# Altium integrated library Kondensator_DIP.IntLib: 1521 symbols (part 1 of 5)
Pins are listed as number, name and electrical type; pins without a type are passive.

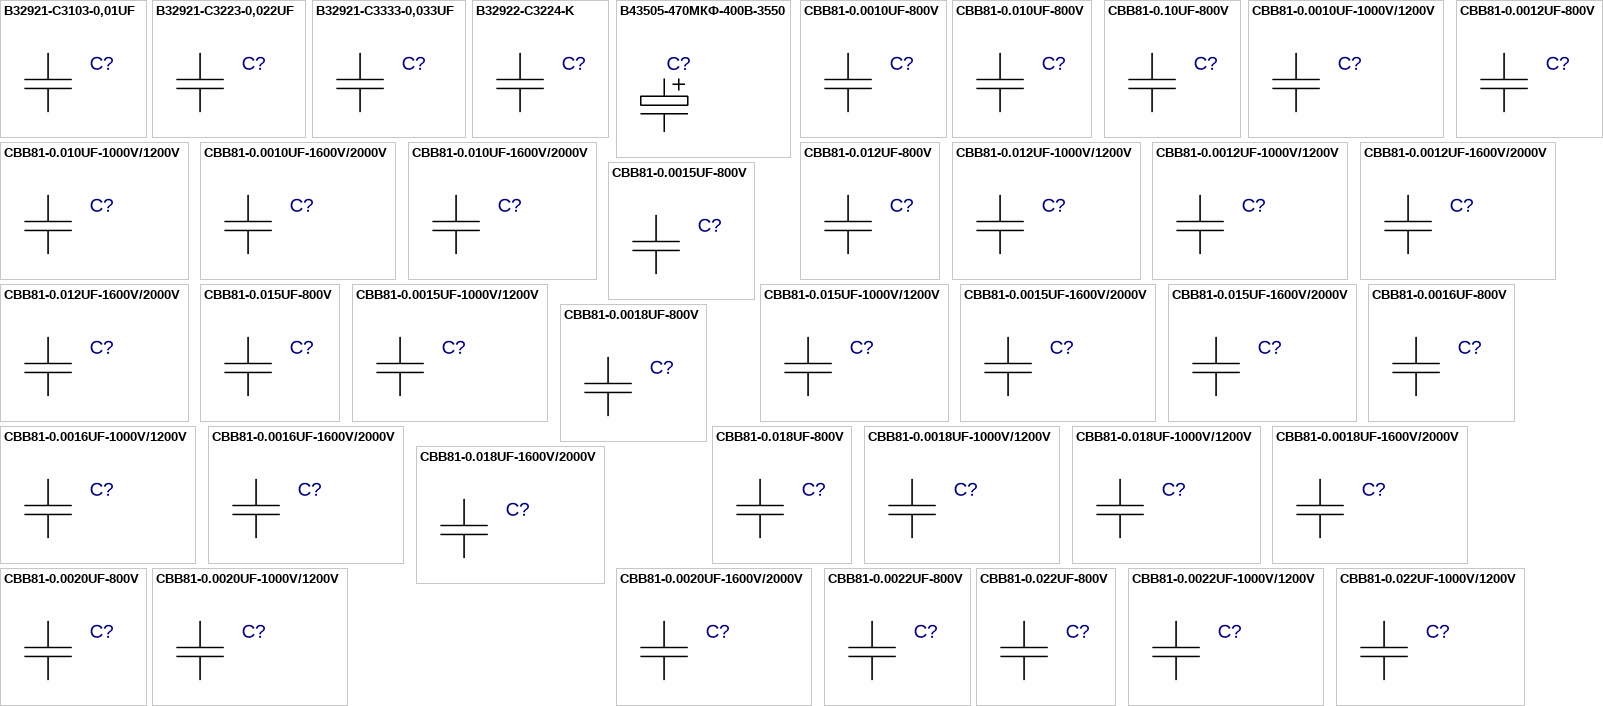
[diagram p0: symbols B32921-C3103-0,01UF to CBB81-0.022UF-1000V/1200V]

## B32921-C3103-0,01UF
designator C?  (value not drawn)
Value: *
footprint B32921(13X4)
pins: 1, 2

## B32921-C3223-0,022UF
designator C?  (value not drawn)
Value: *
footprint B32921(13X4)
pins: 1, 2

## B32921-C3333-0,033UF
designator C?  (value not drawn)
Value: *
footprint B32921(13X4)
pins: 1, 2

## B32922-C3224-K
designator C?  (value not drawn)
Value: *
footprint B32652A6104J
pins: 1, 2

## B43505-470МКФ-400В-3550
designator C?  (value not drawn)
Value: *
footprint B43505-3550
pins: 1, 2, 3 hidden

## CBB81-0.0010UF-800V
designator C?  (value not drawn)
Value: *
footprint CBB81-18P5_7
pins: 1, 2

## CBB81-0.010UF-800V
designator C?  (value not drawn)
Value: *
footprint CBB81-18P5_12
pins: 1, 2

## CBB81-0.10UF-800V
designator C?  (value not drawn)
Value: *
footprint CBB81-26_13
pins: 1, 2

## CBB81-0.0010UF-1000V/1200V
designator C?  (value not drawn)
Value: *
footprint CBB81-18P5_7
pins: 1, 2

## CBB81-0.010UF-1000V/1200V
designator C?  (value not drawn)
Value: *
footprint CBB81-23_9
pins: 1, 2

## CBB81-0.0010UF-1600V/2000V
designator C?  (value not drawn)
Value: *
footprint CBB81-18P5_7
pins: 1, 2

## CBB81-0.010UF-1600V/2000V
designator C?  (value not drawn)
Value: *
footprint CBB81-29_8P5
pins: 1, 2

## CBB81-0.0012UF-800V
designator C?  (value not drawn)
Value: *
footprint CBB81-18P5_7
pins: 1, 2

## CBB81-0.012UF-800V
designator C?  (value not drawn)
Value: *
footprint CBB81-18P5_8
pins: 1, 2

## CBB81-0.012UF-1000V/1200V
designator C?  (value not drawn)
Value: *
footprint CBB81-23_10
pins: 1, 2

## CBB81-0.0012UF-1000V/1200V
designator C?  (value not drawn)
Value: *
footprint CBB81-18P5_7
pins: 1, 2

## CBB81-0.0012UF-1600V/2000V
designator C?  (value not drawn)
Value: *
footprint CBB81-18P5_7
pins: 1, 2

## CBB81-0.012UF-1600V/2000V
designator C?  (value not drawn)
Value: *
footprint CBB81-29_9P5
pins: 1, 2

## CBB81-0.0015UF-800V
designator C?  (value not drawn)
Value: *
footprint CBB81-18P5_7P5
pins: 1, 2

## CBB81-0.015UF-800V
designator C?  (value not drawn)
Value: *
footprint CBB81-18P5_8P5
pins: 1, 2

## CBB81-0.0015UF-1000V/1200V
designator C?  (value not drawn)
Value: *
footprint CBB81-18P5_7P5
pins: 1, 2

## CBB81-0.015UF-1000V/1200V
designator C?  (value not drawn)
Value: *
footprint CBB81-29_9
pins: 1, 2

## CBB81-0.0015UF-1600V/2000V
designator C?  (value not drawn)
Value: *
footprint CBB81-18P5_7P5
pins: 1, 2

## CBB81-0.015UF-1600V/2000V
designator C?  (value not drawn)
Value: *
footprint CBB81-29_9P5
pins: 1, 2

## CBB81-0.0016UF-800V
designator C?  (value not drawn)
Value: *
footprint CBB81-18P5_8
pins: 1, 2

## CBB81-0.0016UF-1000V/1200V
designator C?  (value not drawn)
Value: *
footprint CBB81-18P5_8
pins: 1, 2

## CBB81-0.0016UF-1600V/2000V
designator C?  (value not drawn)
Value: *
footprint CBB81-18P5_8
pins: 1, 2

## CBB81-0.0018UF-800V
designator C?  (value not drawn)
Value: *
footprint CBB81-18P5_8
pins: 1, 2

## CBB81-0.018UF-800V
designator C?  (value not drawn)
Value: *
footprint CBB81-18P5_9P5
pins: 1, 2

## CBB81-0.0018UF-1000V/1200V
designator C?  (value not drawn)
Value: *
footprint CBB81-18P5_8
pins: 1, 2

## CBB81-0.018UF-1000V/1200V
designator C?  (value not drawn)
Value: *
footprint CBB81-29_9P5
pins: 1, 2

## CBB81-0.0018UF-1600V/2000V
designator C?  (value not drawn)
Value: *
footprint CBB81-18P5_8
pins: 1, 2

## CBB81-0.018UF-1600V/2000V
designator C?  (value not drawn)
Value: *
footprint CBB81-29_10P5
pins: 1, 2

## CBB81-0.0020UF-800V
designator C?  (value not drawn)
Value: *
footprint CBB81-18P5_8P5
pins: 1, 2

## CBB81-0.0020UF-1000V/1200V
designator C?  (value not drawn)
Value: *
footprint CBB81-18P5_8P5
pins: 1, 2

## CBB81-0.0020UF-1600V/2000V
designator C?  (value not drawn)
Value: *
footprint CBB81-18P5_8P5
pins: 1, 2

## CBB81-0.0022UF-800V
designator C?  (value not drawn)
Value: *
footprint CBB81-18P5_9
pins: 1, 2

## CBB81-0.022UF-800V
designator C?  (value not drawn)
Value: *
footprint CBB81-18P5_10
pins: 1, 2

## CBB81-0.0022UF-1000V/1200V
designator C?  (value not drawn)
Value: *
footprint CBB81-18P5_9
pins: 1, 2

## CBB81-0.022UF-1000V/1200V
designator C?  (value not drawn)
Value: *
footprint CBB81-29_10
pins: 1, 2

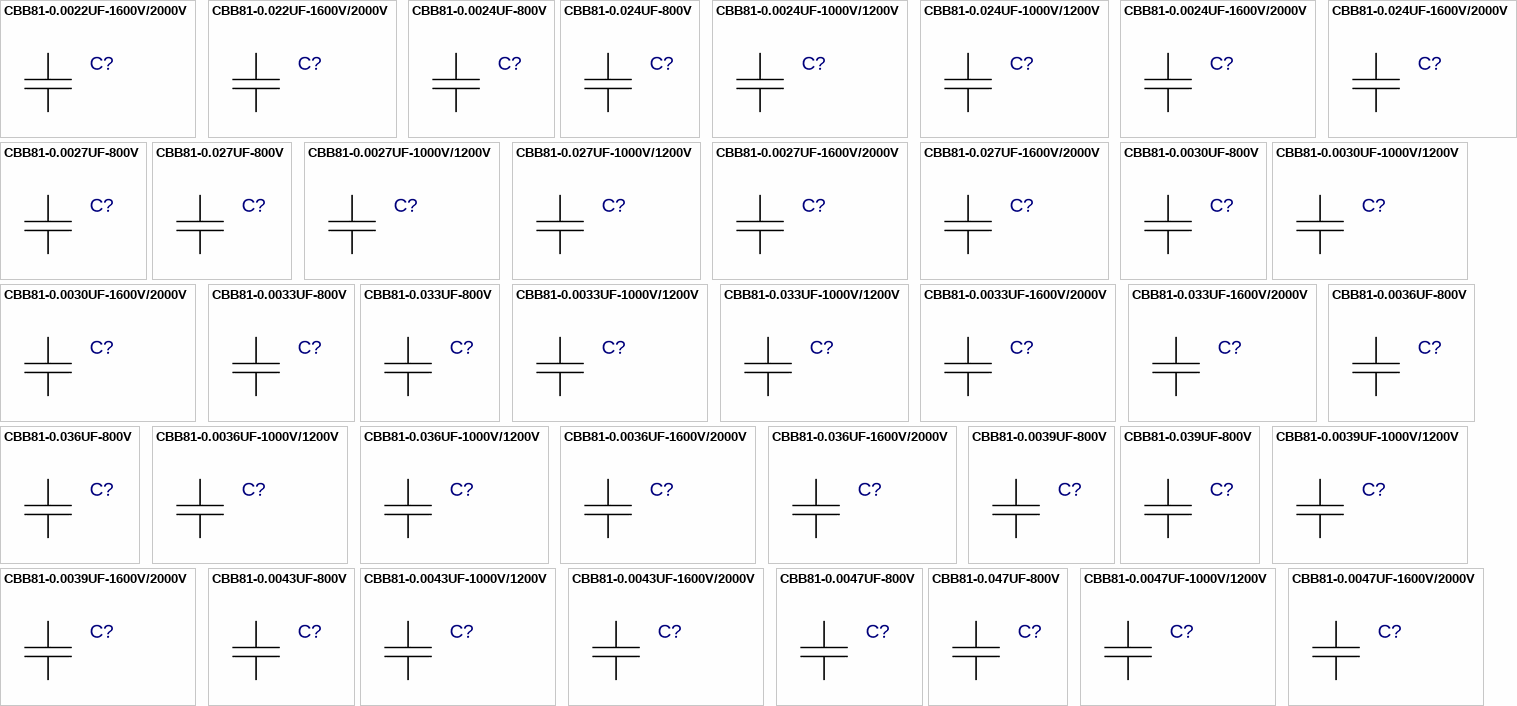
[diagram p1: symbols CBB81-0.0022UF-1600V/2000V to CBB81-0.0047UF-1600V/2000V]

## CBB81-0.0022UF-1600V/2000V
designator C?  (value not drawn)
Value: *
footprint CBB81-18P5_9
pins: 1, 2

## CBB81-0.022UF-1600V/2000V
designator C?  (value not drawn)
Value: *
footprint CBB81-29_12
pins: 1, 2

## CBB81-0.0024UF-800V
designator C?  (value not drawn)
Value: *
footprint CBB81-18P5_9
pins: 1, 2

## CBB81-0.024UF-800V
designator C?  (value not drawn)
Value: *
footprint CBB81-18P5_10P5
pins: 1, 2

## CBB81-0.0024UF-1000V/1200V
designator C?  (value not drawn)
Value: *
footprint CBB81-18P5_9
pins: 1, 2

## CBB81-0.024UF-1000V/1200V
designator C?  (value not drawn)
Value: *
footprint CBB81-29_10P5
pins: 1, 2

## CBB81-0.0024UF-1600V/2000V
designator C?  (value not drawn)
Value: *
footprint CBB81-18P5_9
pins: 1, 2

## CBB81-0.024UF-1600V/2000V
designator C?  (value not drawn)
Value: *
footprint CBB81-29_12
pins: 1, 2

## CBB81-0.0027UF-800V
designator C?  (value not drawn)
Value: *
footprint CBB81-18P5_9P5
pins: 1, 2

## CBB81-0.027UF-800V
designator C?  (value not drawn)
Value: *
footprint CBB81-18P5_11
pins: 1, 2

## CBB81-0.0027UF-1000V/1200V
designator C?  (value not drawn)
Value: *
footprint CBB81-18P5_9P5
pins: 1, 2

## CBB81-0.027UF-1000V/1200V
designator C?  (value not drawn)
Value: *
footprint CBB81-29_11
pins: 1, 2

## CBB81-0.0027UF-1600V/2000V
designator C?  (value not drawn)
Value: *
footprint CBB81-18P5_9P5
pins: 1, 2

## CBB81-0.027UF-1600V/2000V
designator C?  (value not drawn)
Value: *
footprint CBB81-31_12
pins: 1, 2

## CBB81-0.0030UF-800V
designator C?  (value not drawn)
Value: *
footprint CBB81-18P5_10
pins: 1, 2

## CBB81-0.0030UF-1000V/1200V
designator C?  (value not drawn)
Value: *
footprint CBB81-18P5_10
pins: 1, 2

## CBB81-0.0030UF-1600V/2000V
designator C?  (value not drawn)
Value: *
footprint CBB81-18P5_10
pins: 1, 2

## CBB81-0.0033UF-800V
designator C?  (value not drawn)
Value: *
footprint CBB81-18P5_10
pins: 1, 2

## CBB81-0.033UF-800V
designator C?  (value not drawn)
Value: *
footprint CBB81-23_9P5
pins: 1, 2

## CBB81-0.0033UF-1000V/1200V
designator C?  (value not drawn)
Value: *
footprint CBB81-18P5_10
pins: 1, 2

## CBB81-0.033UF-1000V/1200V
designator C?  (value not drawn)
Value: *
footprint CBB81-29_12
pins: 1, 2

## CBB81-0.0033UF-1600V/2000V
designator C?  (value not drawn)
Value: *
footprint CBB81-18P5_10
pins: 1, 2

## CBB81-0.033UF-1600V/2000V
designator C?  (value not drawn)
Value: *
footprint CBB81-31_13
pins: 1, 2

## CBB81-0.0036UF-800V
designator C?  (value not drawn)
Value: *
footprint CBB81-18P5_8
pins: 1, 2

## CBB81-0.036UF-800V
designator C?  (value not drawn)
Value: *
footprint CBB81-23_9P5
pins: 1, 2

## CBB81-0.0036UF-1000V/1200V
designator C?  (value not drawn)
Value: *
footprint CBB81-18P5_8
pins: 1, 2

## CBB81-0.036UF-1000V/1200V
designator C?  (value not drawn)
Value: *
footprint CBB81-29_12P5
pins: 1, 2

## CBB81-0.0036UF-1600V/2000V
designator C?  (value not drawn)
Value: *
footprint CBB81-23_9
pins: 1, 2

## CBB81-0.036UF-1600V/2000V
designator C?  (value not drawn)
Value: *
footprint CBB81-31_13P5
pins: 1, 2

## CBB81-0.0039UF-800V
designator C?  (value not drawn)
Value: *
footprint CBB81-18P5_8P5
pins: 1, 2

## CBB81-0.039UF-800V
designator C?  (value not drawn)
Value: *
footprint CBB81-23_10
pins: 1, 2

## CBB81-0.0039UF-1000V/1200V
designator C?  (value not drawn)
Value: *
footprint CBB81-18P5_8P5
pins: 1, 2

## CBB81-0.0039UF-1600V/2000V
designator C?  (value not drawn)
Value: *
footprint CBB81-23_9
pins: 1, 2

## CBB81-0.0043UF-800V
designator C?  (value not drawn)
Value: *
footprint CBB81-18P5_8P5
pins: 1, 2

## CBB81-0.0043UF-1000V/1200V
designator C?  (value not drawn)
Value: *
footprint CBB81-18P5_8P5
pins: 1, 2

## CBB81-0.0043UF-1600V/2000V
designator C?  (value not drawn)
Value: *
footprint CBB81-23_9
pins: 1, 2

## CBB81-0.0047UF-800V
designator C?  (value not drawn)
Value: *
footprint CBB81-18P5_9
pins: 1, 2

## CBB81-0.047UF-800V
designator C?  (value not drawn)
Value: *
footprint CBB81-23_11
pins: 1, 2

## CBB81-0.0047UF-1000V/1200V
designator C?  (value not drawn)
Value: *
footprint CBB81-18P5_9
pins: 1, 2

## CBB81-0.0047UF-1600V/2000V
designator C?  (value not drawn)
Value: *
footprint CBB81-23_9P5
pins: 1, 2

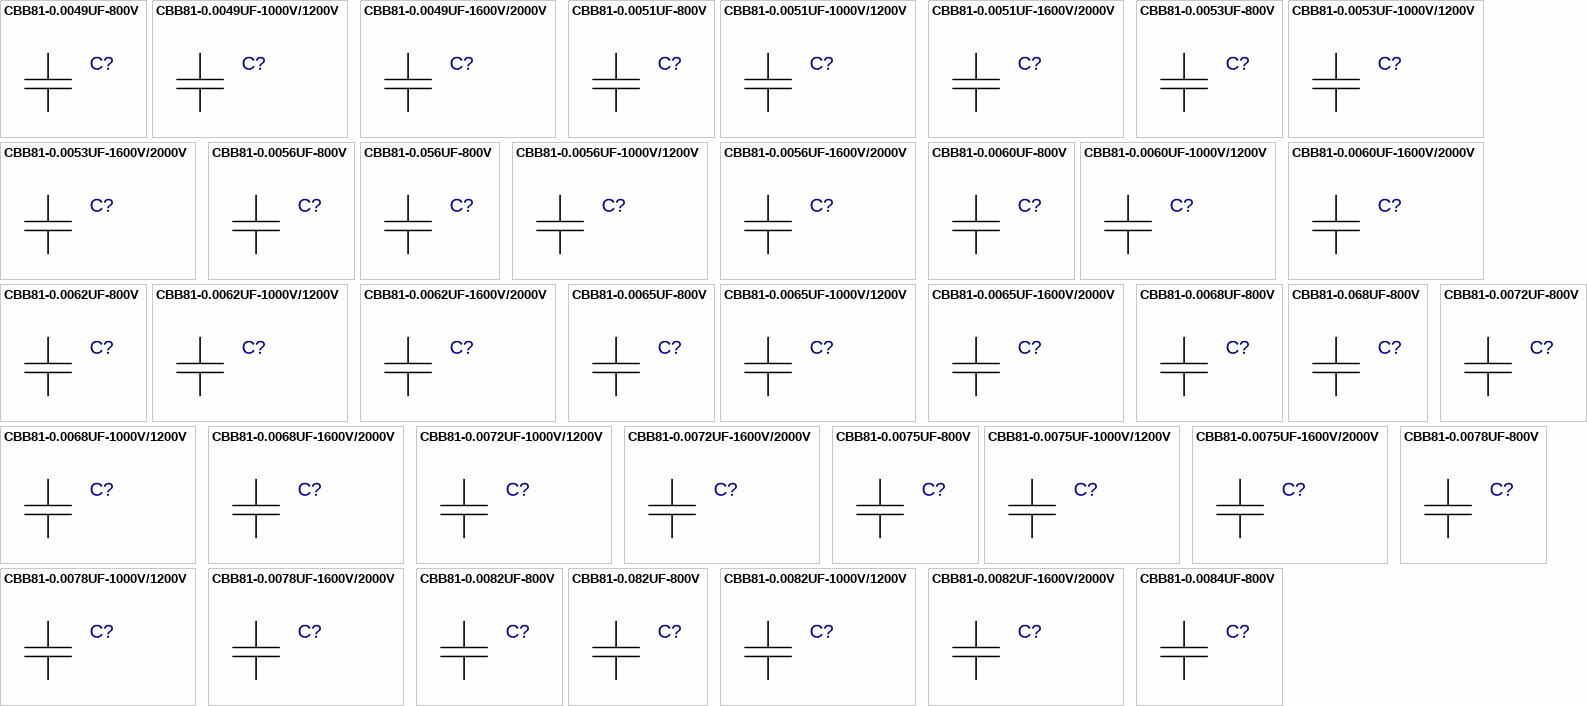
[diagram p2: symbols CBB81-0.0049UF-800V to CBB81-0.0084UF-800V]

## CBB81-0.0049UF-800V
designator C?  (value not drawn)
Value: *
footprint CBB81-18P5_9
pins: 1, 2

## CBB81-0.0049UF-1000V/1200V
designator C?  (value not drawn)
Value: *
footprint CBB81-18P5_9
pins: 1, 2

## CBB81-0.0049UF-1600V/2000V
designator C?  (value not drawn)
Value: *
footprint CBB81-23_9P5
pins: 1, 2

## CBB81-0.0051UF-800V
designator C?  (value not drawn)
Value: *
footprint CBB81-18P5_9
pins: 1, 2

## CBB81-0.0051UF-1000V/1200V
designator C?  (value not drawn)
Value: *
footprint CBB81-18P5_9
pins: 1, 2

## CBB81-0.0051UF-1600V/2000V
designator C?  (value not drawn)
Value: *
footprint CBB81-23_10
pins: 1, 2

## CBB81-0.0053UF-800V
designator C?  (value not drawn)
Value: *
footprint CBB81-18P5_9P5
pins: 1, 2

## CBB81-0.0053UF-1000V/1200V
designator C?  (value not drawn)
Value: *
footprint CBB81-18P5_9P5
pins: 1, 2

## CBB81-0.0053UF-1600V/2000V
designator C?  (value not drawn)
Value: *
footprint CBB81-23_10
pins: 1, 2

## CBB81-0.0056UF-800V
designator C?  (value not drawn)
Value: *
footprint CBB81-18P5_9P5
pins: 1, 2

## CBB81-0.056UF-800V
designator C?  (value not drawn)
Value: *
footprint CBB81-23_11P5
pins: 1, 2

## CBB81-0.0056UF-1000V/1200V
designator C?  (value not drawn)
Value: *
footprint CBB81-18P5_9P5
pins: 1, 2

## CBB81-0.0056UF-1600V/2000V
designator C?  (value not drawn)
Value: *
footprint CBB81-23_10
pins: 1, 2

## CBB81-0.0060UF-800V
designator C?  (value not drawn)
Value: *
footprint CBB81-18P5_10
pins: 1, 2

## CBB81-0.0060UF-1000V/1200V
designator C?  (value not drawn)
Value: *
footprint CBB81-23_7P5
pins: 1, 2

## CBB81-0.0060UF-1600V/2000V
designator C?  (value not drawn)
Value: *
footprint CBB81-23_8P5
pins: 1, 2

## CBB81-0.0062UF-800V
designator C?  (value not drawn)
Value: *
footprint CBB81-18P5_10
pins: 1, 2

## CBB81-0.0062UF-1000V/1200V
designator C?  (value not drawn)
Value: *
footprint CBB81-23_7P5
pins: 1, 2

## CBB81-0.0062UF-1600V/2000V
designator C?  (value not drawn)
Value: *
footprint CBB81-23_9
pins: 1, 2

## CBB81-0.0065UF-800V
designator C?  (value not drawn)
Value: *
footprint CBB81-18P5_10
pins: 1, 2

## CBB81-0.0065UF-1000V/1200V
designator C?  (value not drawn)
Value: *
footprint CBB81-23_8
pins: 1, 2

## CBB81-0.0065UF-1600V/2000V
designator C?  (value not drawn)
Value: *
footprint CBB81-23_9
pins: 1, 2

## CBB81-0.0068UF-800V
designator C?  (value not drawn)
Value: *
footprint CBB81-18P5_10P5
pins: 1, 2

## CBB81-0.068UF-800V
designator C?  (value not drawn)
Value: *
footprint CBB81-26_11
pins: 1, 2

## CBB81-0.0068UF-1000V/1200V
designator C?  (value not drawn)
Value: *
footprint CBB81-23_8
pins: 1, 2

## CBB81-0.0068UF-1600V/2000V
designator C?  (value not drawn)
Value: *
footprint CBB81-23_9
pins: 1, 2

## CBB81-0.0072UF-800V
designator C?  (value not drawn)
Value: *
footprint CBB81-18P5_10P5
pins: 1, 2

## CBB81-0.0072UF-1000V/1200V
designator C?  (value not drawn)
Value: *
footprint CBB81-23_8
pins: 1, 2

## CBB81-0.0072UF-1600V/2000V
designator C?  (value not drawn)
Value: *
footprint CBB81-23_9P5
pins: 1, 2

## CBB81-0.0075UF-800V
designator C?  (value not drawn)
Value: *
footprint CBB81-18P5_10P5
pins: 1, 2

## CBB81-0.0075UF-1000V/1200V
designator C?  (value not drawn)
Value: *
footprint CBB81-23_8
pins: 1, 2

## CBB81-0.0075UF-1600V/2000V
designator C?  (value not drawn)
Value: *
footprint CBB81-23_9P5
pins: 1, 2

## CBB81-0.0078UF-800V
designator C?  (value not drawn)
Value: *
footprint CBB81-18P5_11
pins: 1, 2

## CBB81-0.0078UF-1000V/1200V
designator C?  (value not drawn)
Value: *
footprint CBB81-23_8P5
pins: 1, 2

## CBB81-0.0078UF-1600V/2000V
designator C?  (value not drawn)
Value: *
footprint CBB81-23_9P5
pins: 1, 2

## CBB81-0.0082UF-800V
designator C?  (value not drawn)
Value: *
footprint CBB81-18P5_11
pins: 1, 2

## CBB81-0.082UF-800V
designator C?  (value not drawn)
Value: *
footprint CBB81-26_12
pins: 1, 2

## CBB81-0.0082UF-1000V/1200V
designator C?  (value not drawn)
Value: *
footprint CBB81-23_8P5
pins: 1, 2

## CBB81-0.0082UF-1600V/2000V
designator C?  (value not drawn)
Value: *
footprint CBB81-23_10
pins: 1, 2

## CBB81-0.0084UF-800V
designator C?  (value not drawn)
Value: *
footprint CBB81-18P5_11
pins: 1, 2

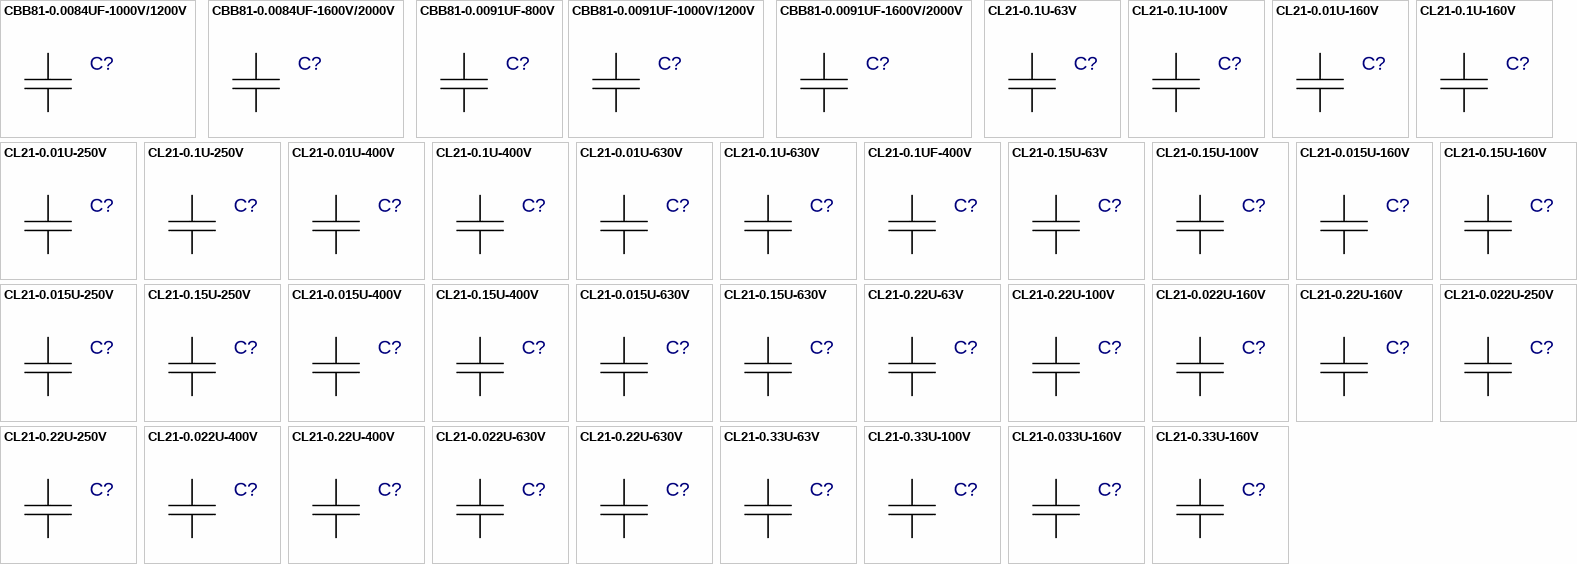
[diagram p3: symbols CBB81-0.0084UF-1000V/1200V to CL21-0.33U-160V]

## CBB81-0.0084UF-1000V/1200V
designator C?  (value not drawn)
Value: *
footprint CBB81-23_8P5
pins: 1, 2

## CBB81-0.0084UF-1600V/2000V
designator C?  (value not drawn)
Value: *
footprint CBB81-23_10
pins: 1, 2

## CBB81-0.0091UF-800V
designator C?  (value not drawn)
Value: *
footprint CBB81-18P5_11P5
pins: 1, 2

## CBB81-0.0091UF-1000V/1200V
designator C?  (value not drawn)
Value: *
footprint CBB81-23_9
pins: 1, 2

## CBB81-0.0091UF-1600V/2000V
designator C?  (value not drawn)
Value: *
footprint CBB81-23_11
pins: 1, 2

## CL21-0.1U-63V
designator C?  (value not drawn)
Value: *
footprint CL21-1205
pins: 1, 2

## CL21-0.1U-100V
designator C?  (value not drawn)
Value: *
footprint CL21-1205
pins: 1, 2

## CL21-0.01U-160V
designator C?  (value not drawn)
Value: *
footprint CL21-1205
pins: 1, 2

## CL21-0.1U-160V
designator C?  (value not drawn)
Value: *
footprint CL21-1206P5
pins: 1, 2

## CL21-0.01U-250V
designator C?  (value not drawn)
Value: *
footprint CL21-1205
pins: 1, 2

## CL21-0.1U-250V
designator C?  (value not drawn)
Value: *
footprint CL21-1206P5
pins: 1, 2

## CL21-0.01U-400V
designator C?  (value not drawn)
Value: *
footprint CL21-1205
pins: 1, 2

## CL21-0.1U-400V
designator C?  (value not drawn)
Value: *
footprint CL21-1207
pins: 1, 2

## CL21-0.01U-630V
designator C?  (value not drawn)
Value: *
footprint CL21-1205
pins: 1, 2

## CL21-0.1U-630V
designator C?  (value not drawn)
Value: *
footprint CL21-1808
pins: 1, 2

## CL21-0.1UF-400V
designator C?  (value not drawn)
Value: *
footprint CL21(12X5)
pins: 1, 2

## CL21-0.15U-63V
designator C?  (value not drawn)
Value: *
footprint CL21-1205
pins: 1, 2

## CL21-0.15U-100V
designator C?  (value not drawn)
Value: *
footprint CL21-1205
pins: 1, 2

## CL21-0.015U-160V
designator C?  (value not drawn)
Value: *
footprint CL21-1206
pins: 1, 2

## CL21-0.15U-160V
designator C?  (value not drawn)
Value: *
footprint CL21-1206P5
pins: 1, 2

## CL21-0.015U-250V
designator C?  (value not drawn)
Value: *
footprint CL21-1206
pins: 1, 2

## CL21-0.15U-250V
designator C?  (value not drawn)
Value: *
footprint CL21-1206P5
pins: 1, 2

## CL21-0.015U-400V
designator C?  (value not drawn)
Value: *
footprint CL21-1206
pins: 1, 2

## CL21-0.15U-400V
designator C?  (value not drawn)
Value: *
footprint CL21-1807P5
pins: 1, 2

## CL21-0.015U-630V
designator C?  (value not drawn)
Value: *
footprint CL21-1205
pins: 1, 2

## CL21-0.15U-630V
designator C?  (value not drawn)
Value: *
footprint CL21-1809P5
pins: 1, 2

## CL21-0.22U-63V
designator C?  (value not drawn)
Value: *
footprint CL21-1206
pins: 1, 2

## CL21-0.22U-100V
designator C?  (value not drawn)
Value: *
footprint CL21-1206
pins: 1, 2

## CL21-0.022U-160V
designator C?  (value not drawn)
Value: *
footprint CL21-1206
pins: 1, 2

## CL21-0.22U-160V
designator C?  (value not drawn)
Value: *
footprint CL21-1206P5
pins: 1, 2

## CL21-0.022U-250V
designator C?  (value not drawn)
Value: *
footprint CL21-1206
pins: 1, 2

## CL21-0.22U-250V
designator C?  (value not drawn)
Value: *
footprint CL21-1206P5
pins: 1, 2

## CL21-0.022U-400V
designator C?  (value not drawn)
Value: *
footprint CL21-1206
pins: 1, 2

## CL21-0.22U-400V
designator C?  (value not drawn)
Value: *
footprint CL21-1808
pins: 1, 2

## CL21-0.022U-630V
designator C?  (value not drawn)
Value: *
footprint CL21-1206
pins: 1, 2

## CL21-0.22U-630V
designator C?  (value not drawn)
Value: *
footprint CL21-1811
pins: 1, 2

## CL21-0.33U-63V
designator C?  (value not drawn)
Value: *
footprint CL21-1206
pins: 1, 2

## CL21-0.33U-100V
designator C?  (value not drawn)
Value: *
footprint CL21-1206
pins: 1, 2

## CL21-0.033U-160V
designator C?  (value not drawn)
Value: *
footprint CL21-1206
pins: 1, 2

## CL21-0.33U-160V
designator C?  (value not drawn)
Value: *
footprint CL21-1207
pins: 1, 2

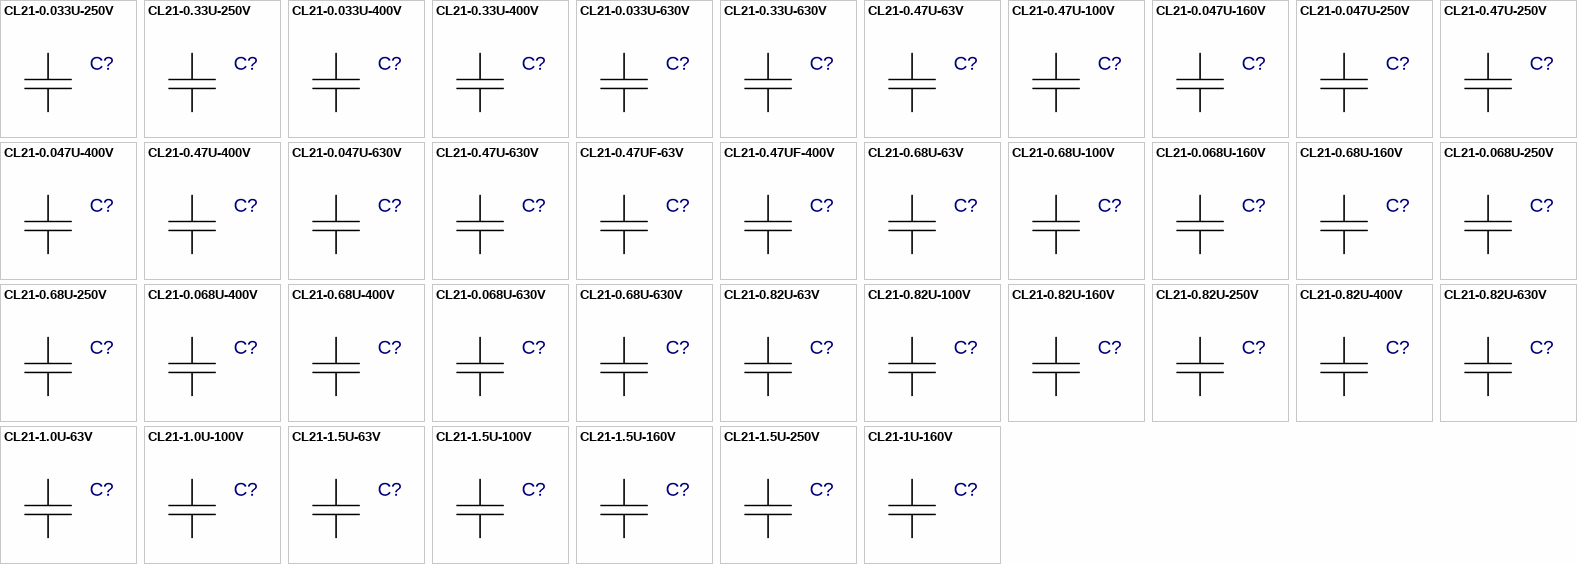
[diagram p4: symbols CL21-0.033U-250V to CL21-1U-160V]

## CL21-0.033U-250V
designator C?  (value not drawn)
Value: *
footprint CL21-1206
pins: 1, 2

## CL21-0.33U-250V
designator C?  (value not drawn)
Value: *
footprint CL21-1207
pins: 1, 2

## CL21-0.033U-400V
designator C?  (value not drawn)
Value: *
footprint CL21-1206
pins: 1, 2

## CL21-0.33U-400V
designator C?  (value not drawn)
Value: *
footprint CL21-1809P5
pins: 1, 2

## CL21-0.033U-630V
designator C?  (value not drawn)
Value: *
footprint CL21-1207
pins: 1, 2

## CL21-0.33U-630V
designator C?  (value not drawn)
Value: *
footprint CL21-2510P5
pins: 1, 2

## CL21-0.47U-63V
designator C?  (value not drawn)
Value: *
footprint CL21-1206P5
pins: 1, 2

## CL21-0.47U-100V
designator C?  (value not drawn)
Value: *
footprint CL21-1206P5
pins: 1, 2

## CL21-0.047U-160V
designator C?  (value not drawn)
Value: *
footprint CL21-1206
pins: 1, 2

## CL21-0.047U-250V
designator C?  (value not drawn)
Value: *
footprint CL21-1206
pins: 1, 2

## CL21-0.47U-250V
designator C?  (value not drawn)
Value: *
footprint CL21-1207
pins: 1, 2

## CL21-0.047U-400V
designator C?  (value not drawn)
Value: *
footprint CL21-1207
pins: 1, 2

## CL21-0.47U-400V
designator C?  (value not drawn)
Value: *
footprint CL21-1811
pins: 1, 2

## CL21-0.047U-630V
designator C?  (value not drawn)
Value: *
footprint CL21-1807
pins: 1, 2

## CL21-0.47U-630V
designator C?  (value not drawn)
Value: *
footprint CL21-2510P5
pins: 1, 2

## CL21-0.47UF-63V
designator C?  (value not drawn)
Value: *
footprint CL21(12P5X6P5)
pins: 1, 2

## CL21-0.47UF-400V
designator C?  (value not drawn)
Value: *
footprint CL21(18X11)
pins: 1, 2

## CL21-0.68U-63V
designator C?  (value not drawn)
Value: *
footprint CL21-1206P5
pins: 1, 2

## CL21-0.68U-100V
designator C?  (value not drawn)
Value: *
footprint CL21-1206P5
pins: 1, 2

## CL21-0.068U-160V
designator C?  (value not drawn)
Value: *
footprint CL21-1206
pins: 1, 2

## CL21-0.68U-160V
designator C?  (value not drawn)
Value: *
footprint CL21-1808
pins: 1, 2

## CL21-0.068U-250V
designator C?  (value not drawn)
Value: *
footprint CL21-1206
pins: 1, 2

## CL21-0.68U-250V
designator C?  (value not drawn)
Value: *
footprint CL21-1808
pins: 1, 2

## CL21-0.068U-400V
designator C?  (value not drawn)
Value: *
footprint CL21-1206P5
pins: 1, 2

## CL21-0.68U-400V
designator C?  (value not drawn)
Value: *
footprint CL21-2408
pins: 1, 2

## CL21-0.068U-630V
designator C?  (value not drawn)
Value: *
footprint CL21-1807P5
pins: 1, 2

## CL21-0.68U-630V
designator C?  (value not drawn)
Value: *
footprint CL21-2912P5
pins: 1, 2

## CL21-0.82U-63V
designator C?  (value not drawn)
Value: *
footprint CL21-1807
pins: 1, 2

## CL21-0.82U-100V
designator C?  (value not drawn)
Value: *
footprint CL21-1807
pins: 1, 2

## CL21-0.82U-160V
designator C?  (value not drawn)
Value: *
footprint CL21-1809
pins: 1, 2

## CL21-0.82U-250V
designator C?  (value not drawn)
Value: *
footprint CL21-1809
pins: 1, 2

## CL21-0.82U-400V
designator C?  (value not drawn)
Value: *
footprint CL21-2412
pins: 1, 2

## CL21-0.82U-630V
designator C?  (value not drawn)
Value: *
footprint CL21-2913
pins: 1, 2

## CL21-1.0U-63V
designator C?  (value not drawn)
Value: *
footprint CL21-1807P5
pins: 1, 2

## CL21-1.0U-100V
designator C?  (value not drawn)
Value: *
footprint CL21-1807P5
pins: 1, 2

## CL21-1.5U-63V
designator C?  (value not drawn)
Value: *
footprint CL21-1807P5
pins: 1, 2

## CL21-1.5U-100V
designator C?  (value not drawn)
Value: *
footprint CL21-1807P5
pins: 1, 2

## CL21-1.5U-160V
designator C?  (value not drawn)
Value: *
footprint CL21-2408P5
pins: 1, 2

## CL21-1.5U-250V
designator C?  (value not drawn)
Value: *
footprint CL21-2408P5
pins: 1, 2

## CL21-1U-160V
designator C?  (value not drawn)
Value: *
footprint CL21-1809P5
pins: 1, 2

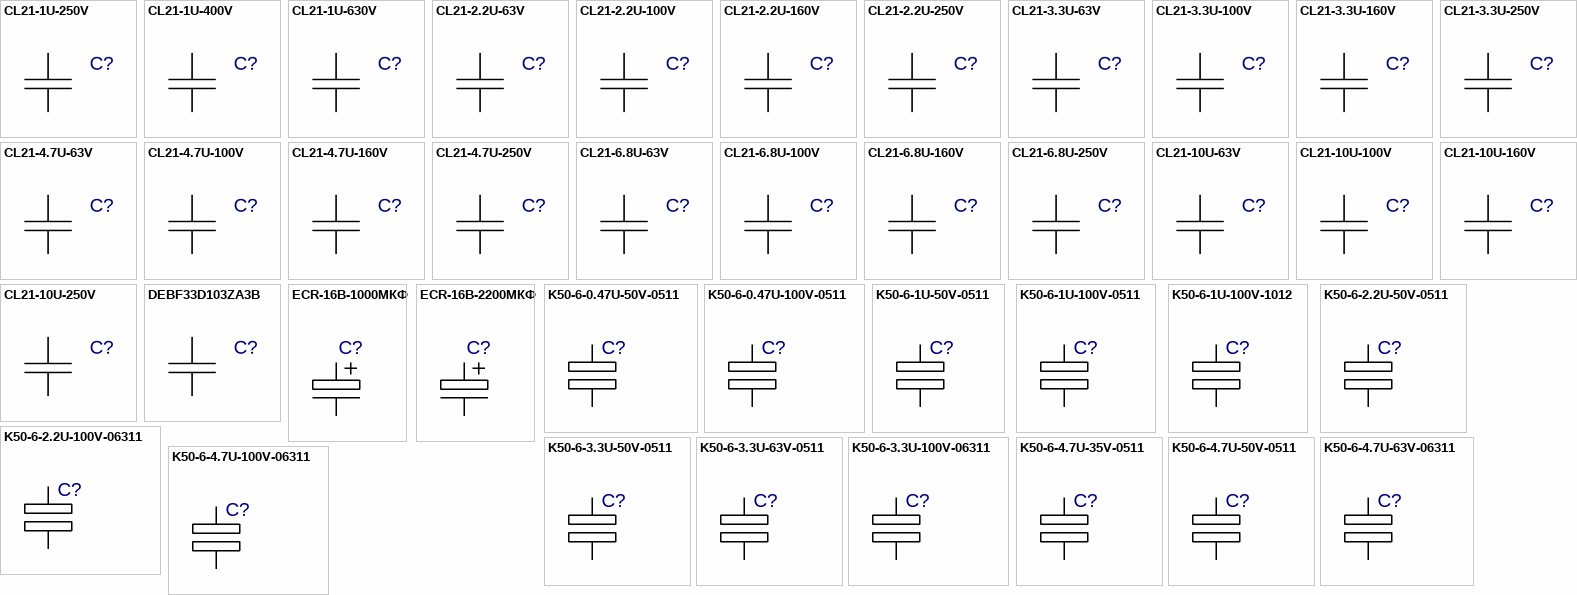
[diagram p5: symbols CL21-1U-250V to K50-6-4.7U-100V-06311]

## CL21-1U-250V
designator C?  (value not drawn)
Value: *
footprint CL21-1809P5
pins: 1, 2

## CL21-1U-400V
designator C?  (value not drawn)
Value: *
footprint CL21-2413
pins: 1, 2

## CL21-1U-630V
designator C?  (value not drawn)
Value: *
footprint CL21-2913P5
pins: 1, 2

## CL21-2.2U-63V
designator C?  (value not drawn)
Value: *
footprint CL21-2408P5
pins: 1, 2

## CL21-2.2U-100V
designator C?  (value not drawn)
Value: *
footprint CL21-2408P5
pins: 1, 2

## CL21-2.2U-160V
designator C?  (value not drawn)
Value: *
footprint CL21-2410P5
pins: 1, 2

## CL21-2.2U-250V
designator C?  (value not drawn)
Value: *
footprint CL21-2410P5
pins: 1, 2

## CL21-3.3U-63V
designator C?  (value not drawn)
Value: *
footprint CL21-2410
pins: 1, 2

## CL21-3.3U-100V
designator C?  (value not drawn)
Value: *
footprint CL21-2410
pins: 1, 2

## CL21-3.3U-160V
designator C?  (value not drawn)
Value: *
footprint CL21-2911P5
pins: 1, 2

## CL21-3.3U-250V
designator C?  (value not drawn)
Value: *
footprint CL21-2911P5
pins: 1, 2

## CL21-4.7U-63V
designator C?  (value not drawn)
Value: *
footprint CL21-2410P5
pins: 1, 2

## CL21-4.7U-100V
designator C?  (value not drawn)
Value: *
footprint CL21-2410P5
pins: 1, 2

## CL21-4.7U-160V
designator C?  (value not drawn)
Value: *
footprint CL21-2913P5
pins: 1, 2

## CL21-4.7U-250V
designator C?  (value not drawn)
Value: *
footprint CL21-2913P5
pins: 1, 2

## CL21-6.8U-63V
designator C?  (value not drawn)
Value: *
footprint CL21-2912
pins: 1, 2

## CL21-6.8U-100V
designator C?  (value not drawn)
Value: *
footprint CL21-2912
pins: 1, 2

## CL21-6.8U-160V
designator C?  (value not drawn)
Value: *
footprint CL21-2913P5
pins: 1, 2

## CL21-6.8U-250V
designator C?  (value not drawn)
Value: *
footprint CL21-2913P5
pins: 1, 2

## CL21-10U-63V
designator C?  (value not drawn)
Value: *
footprint CL21-2914P5
pins: 1, 2

## CL21-10U-100V
designator C?  (value not drawn)
Value: *
footprint CL21-2914P5
pins: 1, 2

## CL21-10U-160V
designator C?  (value not drawn)
Value: *
footprint CL21-2914P5
pins: 1, 2

## CL21-10U-250V
designator C?  (value not drawn)
Value: *
footprint CL21-2914P5
pins: 1, 2

## DEBF33D103ZA3B
designator C?  (value not drawn)
Value: *
footprint СН2-1B
pins: 1, 2

## ECR-16В-1000МКФ
designator C?  (value not drawn)
Value: *
footprint ECR-16В-1000МКФ
pins: 1, 2

## ECR-16В-2200МКФ
designator C?  (value not drawn)
Value: *
footprint ECR-16В-2200МКФ
pins: 1, 2, 3 hidden, 4 hidden

## K50-6-0.47U-50V-0511
designator C?  (value not drawn)
Author: pcbdesigner.ru; Value: *
footprint K50-6-0511
pins: 1, 2

## K50-6-0.47U-100V-0511
designator C?  (value not drawn)
Author: pcbdesigner.ru; Value: *
footprint K50-6-0511
pins: 1, 2

## K50-6-1U-50V-0511
designator C?  (value not drawn)
Author: pcbdesigner.ru; Value: *
footprint K50-6-0511
pins: 1, 2

## K50-6-1U-100V-0511
designator C?  (value not drawn)
Author: pcbdesigner.ru; Value: *
footprint K50-6-0511
pins: 1, 2

## K50-6-1U-100V-1012
designator C?  (value not drawn)
Author: pcbdesigner.ru; Value: *
footprint K50-6-1012
pins: 1, 2

## K50-6-2.2U-50V-0511
designator C?  (value not drawn)
Author: pcbdesigner.ru; Value: *
footprint K50-6-0511
pins: 1, 2

## K50-6-2.2U-100V-06311
designator C?  (value not drawn)
Author: pcbdesigner.ru; Value: *
footprint K50-6-06311
pins: 1, 2

## K50-6-3.3U-50V-0511
designator C?  (value not drawn)
Author: pcbdesigner.ru; Value: *
footprint K50-6-0511
pins: 1, 2

## K50-6-3.3U-63V-0511
designator C?  (value not drawn)
Author: pcbdesigner.ru; Value: *
footprint K50-6-0511
pins: 1, 2

## K50-6-3.3U-100V-06311
designator C?  (value not drawn)
Author: pcbdesigner.ru; Value: *
footprint K50-6-06311
pins: 1, 2

## K50-6-4.7U-35V-0511
designator C?  (value not drawn)
Author: pcbdesigner.ru; Value: *
footprint K50-6-0511
pins: 1, 2

## K50-6-4.7U-50V-0511
designator C?  (value not drawn)
Author: pcbdesigner.ru; Value: *
footprint K50-6-0511
pins: 1, 2

## K50-6-4.7U-63V-06311
designator C?  (value not drawn)
Author: pcbdesigner.ru; Value: *
footprint K50-6-06311
pins: 1, 2

## K50-6-4.7U-100V-06311
designator C?  (value not drawn)
Author: pcbdesigner.ru; Value: *
footprint K50-6-06311
pins: 1, 2

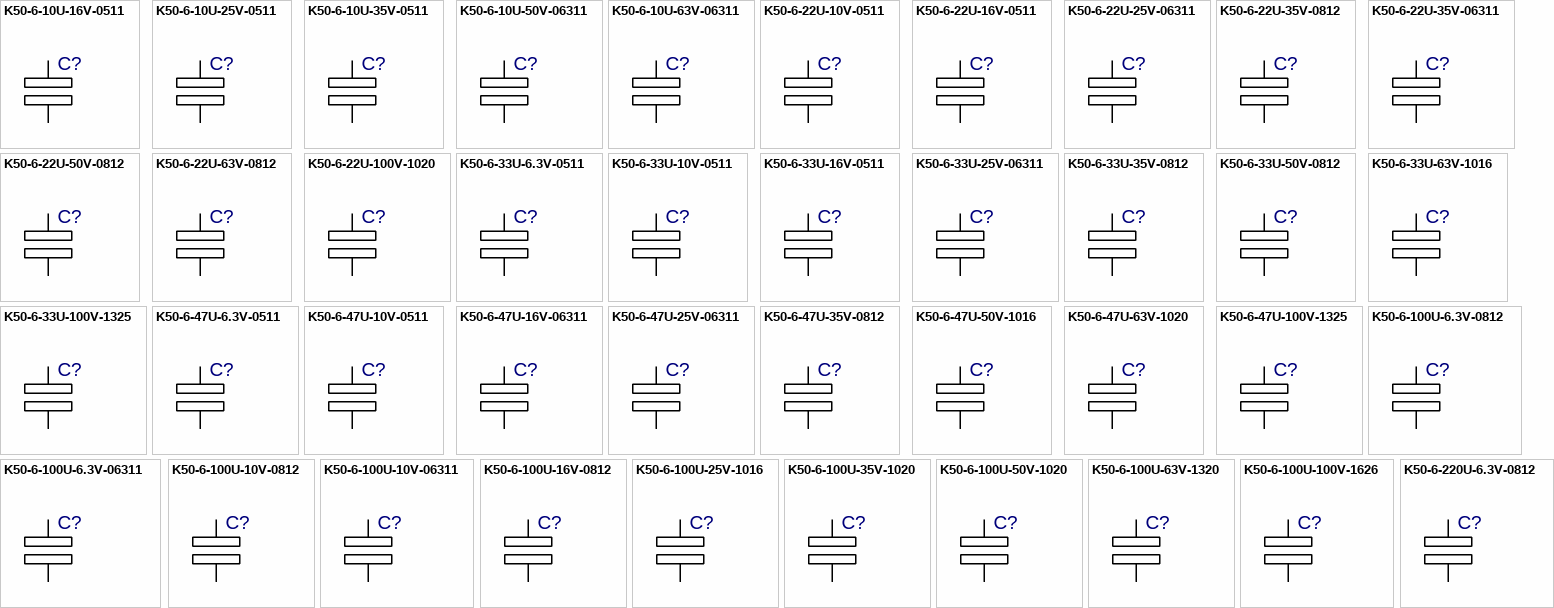
[diagram p6: symbols K50-6-10U-16V-0511 to K50-6-220U-6.3V-0812]

## K50-6-10U-16V-0511
designator C?  (value not drawn)
Author: pcbdesigner.ru; Value: *
footprint K50-6-0511
pins: 1, 2

## K50-6-10U-25V-0511
designator C?  (value not drawn)
Author: pcbdesigner.ru; Value: *
footprint K50-6-0511
pins: 1, 2

## K50-6-10U-35V-0511
designator C?  (value not drawn)
Author: pcbdesigner.ru; Value: *
footprint K50-6-0511
pins: 1, 2

## K50-6-10U-50V-06311
designator C?  (value not drawn)
Author: pcbdesigner.ru; Value: *
footprint K50-6-06311
pins: 1, 2

## K50-6-10U-63V-06311
designator C?  (value not drawn)
Author: pcbdesigner.ru; Value: *
footprint K50-6-06311
pins: 1, 2

## K50-6-22U-10V-0511
designator C?  (value not drawn)
Author: pcbdesigner.ru; Value: *
footprint K50-6-0511
pins: 1, 2

## K50-6-22U-16V-0511
designator C?  (value not drawn)
Author: pcbdesigner.ru; Value: *
footprint K50-6-0511
pins: 1, 2

## K50-6-22U-25V-06311
designator C?  (value not drawn)
Author: pcbdesigner.ru; Value: *
footprint K50-6-06311
pins: 1, 2

## K50-6-22U-35V-0812
designator C?  (value not drawn)
Author: pcbdesigner.ru; Value: *
footprint K50-6-0812
pins: 1, 2

## K50-6-22U-35V-06311
designator C?  (value not drawn)
Author: pcbdesigner.ru; Value: *
footprint K50-6-06311
pins: 1, 2

## K50-6-22U-50V-0812
designator C?  (value not drawn)
Author: pcbdesigner.ru; Value: *
footprint K50-6-0812
pins: 1, 2

## K50-6-22U-63V-0812
designator C?  (value not drawn)
Author: pcbdesigner.ru; Value: *
footprint K50-6-0812
pins: 1, 2

## K50-6-22U-100V-1020
designator C?  (value not drawn)
Author: pcbdesigner.ru; Value: *
footprint K50-6-1020
pins: 1, 2

## K50-6-33U-6.3V-0511
designator C?  (value not drawn)
Author: pcbdesigner.ru; Value: *
footprint K50-6-0511
pins: 1, 2

## K50-6-33U-10V-0511
designator C?  (value not drawn)
Author: pcbdesigner.ru; Value: *
footprint K50-6-0511
pins: 1, 2

## K50-6-33U-16V-0511
designator C?  (value not drawn)
Author: pcbdesigner.ru; Value: *
footprint K50-6-0511
pins: 1, 2

## K50-6-33U-25V-06311
designator C?  (value not drawn)
Author: pcbdesigner.ru; Value: *
footprint K50-6-06311
pins: 1, 2

## K50-6-33U-35V-0812
designator C?  (value not drawn)
Author: pcbdesigner.ru; Value: *
footprint K50-6-0812
pins: 1, 2

## K50-6-33U-50V-0812
designator C?  (value not drawn)
Author: pcbdesigner.ru; Value: *
footprint K50-6-0812
pins: 1, 2

## K50-6-33U-63V-1016
designator C?  (value not drawn)
Author: pcbdesigner.ru; Value: *
footprint K50-6-1016
pins: 1, 2

## K50-6-33U-100V-1325
designator C?  (value not drawn)
Author: pcbdesigner.ru; Value: *
footprint K50-6-1325
pins: 1, 2

## K50-6-47U-6.3V-0511
designator C?  (value not drawn)
Author: pcbdesigner.ru; Value: *
footprint K50-6-0511
pins: 1, 2

## K50-6-47U-10V-0511
designator C?  (value not drawn)
Author: pcbdesigner.ru; Value: *
footprint K50-6-0511
pins: 1, 2

## K50-6-47U-16V-06311
designator C?  (value not drawn)
Author: pcbdesigner.ru; Value: *
footprint K50-6-06311
pins: 1, 2

## K50-6-47U-25V-06311
designator C?  (value not drawn)
Author: pcbdesigner.ru; Value: *
footprint K50-6-06311
pins: 1, 2

## K50-6-47U-35V-0812
designator C?  (value not drawn)
Author: pcbdesigner.ru; Value: *
footprint K50-6-0812
pins: 1, 2

## K50-6-47U-50V-1016
designator C?  (value not drawn)
Author: pcbdesigner.ru; Value: *
footprint K50-6-1016
pins: 1, 2

## K50-6-47U-63V-1020
designator C?  (value not drawn)
Author: pcbdesigner.ru; Value: *
footprint K50-6-1020
pins: 1, 2

## K50-6-47U-100V-1325
designator C?  (value not drawn)
Author: pcbdesigner.ru; Value: *
footprint K50-6-1325
pins: 1, 2

## K50-6-100U-6.3V-0812
designator C?  (value not drawn)
Author: pcbdesigner.ru; Value: *
footprint K50-6-0812
pins: 1, 2

## K50-6-100U-6.3V-06311
designator C?  (value not drawn)
Author: pcbdesigner.ru; Value: *
footprint K50-6-06311
pins: 1, 2

## K50-6-100U-10V-0812
designator C?  (value not drawn)
Author: pcbdesigner.ru; Value: *
footprint K50-6-0812
pins: 1, 2

## K50-6-100U-10V-06311
designator C?  (value not drawn)
Author: pcbdesigner.ru; Value: *
footprint K50-6-06311
pins: 1, 2

## K50-6-100U-16V-0812
designator C?  (value not drawn)
Author: pcbdesigner.ru; Value: *
footprint K50-6-0812
pins: 1, 2

## K50-6-100U-25V-1016
designator C?  (value not drawn)
Author: pcbdesigner.ru; Value: *
footprint K50-6-1016
pins: 1, 2

## K50-6-100U-35V-1020
designator C?  (value not drawn)
Author: pcbdesigner.ru; Value: *
footprint K50-6-1020
pins: 1, 2

## K50-6-100U-50V-1020
designator C?  (value not drawn)
Author: pcbdesigner.ru; Value: *
footprint K50-6-1020
pins: 1, 2

## K50-6-100U-63V-1320
designator C?  (value not drawn)
Author: pcbdesigner.ru; Value: *
footprint K50-6-1320
pins: 1, 2

## K50-6-100U-100V-1626
designator C?  (value not drawn)
Author: pcbdesigner.ru; Value: *
footprint K50-6-1626
pins: 1, 2

## K50-6-220U-6.3V-0812
designator C?  (value not drawn)
Author: pcbdesigner.ru; Value: *
footprint K50-6-0812
pins: 1, 2

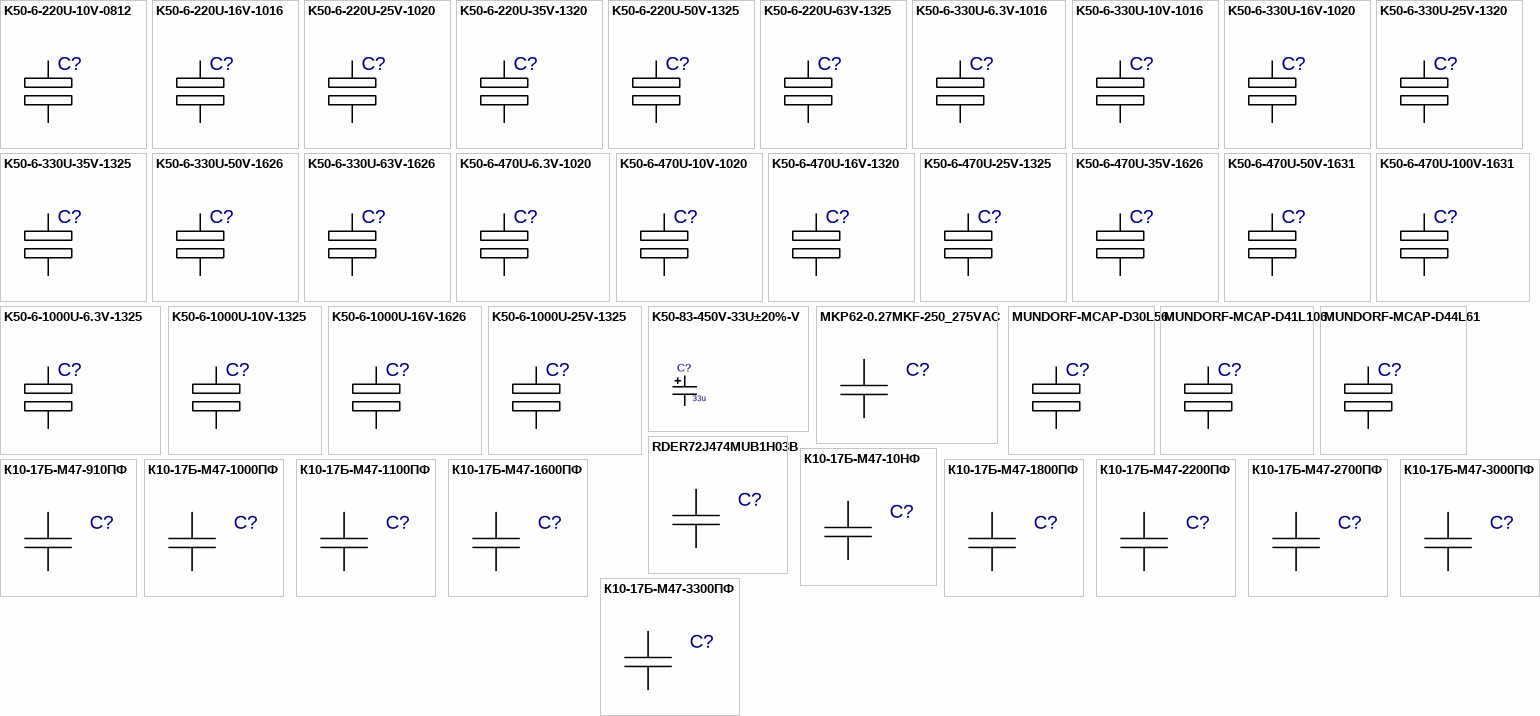
[diagram p7: symbols K50-6-220U-10V-0812 to К10-17Б-М47-3300ПФ]

## K50-6-220U-10V-0812
designator C?  (value not drawn)
Author: pcbdesigner.ru; Value: *
footprint K50-6-0812
pins: 1, 2

## K50-6-220U-16V-1016
designator C?  (value not drawn)
Author: pcbdesigner.ru; Value: *
footprint K50-6-1016
pins: 1, 2

## K50-6-220U-25V-1020
designator C?  (value not drawn)
Author: pcbdesigner.ru; Value: *
footprint K50-6-1020
pins: 1, 2

## K50-6-220U-35V-1320
designator C?  (value not drawn)
Author: pcbdesigner.ru; Value: *
footprint K50-6-1320
pins: 1, 2

## K50-6-220U-50V-1325
designator C?  (value not drawn)
Author: pcbdesigner.ru; Value: *
footprint K50-6-1325
pins: 1, 2

## K50-6-220U-63V-1325
designator C?  (value not drawn)
Author: pcbdesigner.ru; Value: *
footprint K50-6-1325
pins: 1, 2

## K50-6-330U-6.3V-1016
designator C?  (value not drawn)
Author: pcbdesigner.ru; Value: *
footprint K50-6-1016
pins: 1, 2

## K50-6-330U-10V-1016
designator C?  (value not drawn)
Author: pcbdesigner.ru; Value: *
footprint K50-6-1016
pins: 1, 2

## K50-6-330U-16V-1020
designator C?  (value not drawn)
Author: pcbdesigner.ru; Value: *
footprint K50-6-1020
pins: 1, 2

## K50-6-330U-25V-1320
designator C?  (value not drawn)
Author: pcbdesigner.ru; Value: *
footprint K50-6-1320
pins: 1, 2

## K50-6-330U-35V-1325
designator C?  (value not drawn)
Author: pcbdesigner.ru; Value: *
footprint K50-6-1325
pins: 1, 2

## K50-6-330U-50V-1626
designator C?  (value not drawn)
Author: pcbdesigner.ru; Value: *
footprint K50-6-1626
pins: 1, 2

## K50-6-330U-63V-1626
designator C?  (value not drawn)
Author: pcbdesigner.ru; Value: *
footprint K50-6-1626
pins: 1, 2

## K50-6-470U-6.3V-1020
designator C?  (value not drawn)
Author: pcbdesigner.ru; Value: *
footprint K50-6-1020
pins: 1, 2

## K50-6-470U-10V-1020
designator C?  (value not drawn)
Author: pcbdesigner.ru; Value: *
footprint K50-6-1020
pins: 1, 2

## K50-6-470U-16V-1320
designator C?  (value not drawn)
Author: pcbdesigner.ru; Value: *
footprint K50-6-1320
pins: 1, 2

## K50-6-470U-25V-1325
designator C?  (value not drawn)
Author: pcbdesigner.ru; Value: *
footprint K50-6-1325
pins: 1, 2

## K50-6-470U-35V-1626
designator C?  (value not drawn)
Author: pcbdesigner.ru; Value: *
footprint K50-6-1626
pins: 1, 2

## K50-6-470U-50V-1631
designator C?  (value not drawn)
Author: pcbdesigner.ru; Value: *
footprint K50-6-1631
pins: 1, 2

## K50-6-470U-100V-1631
designator C?  (value not drawn)
Author: pcbdesigner.ru; Value: *
footprint K50-6-1631
pins: 1, 2

## K50-6-1000U-6.3V-1325
designator C?  (value not drawn)
Author: pcbdesigner.ru; Value: *
footprint K50-6-1325
pins: 1, 2

## K50-6-1000U-10V-1325
designator C?  (value not drawn)
Author: pcbdesigner.ru; Value: *
footprint K50-6-1325
pins: 1, 2

## K50-6-1000U-16V-1626
designator C?  (value not drawn)
Author: pcbdesigner.ru; Value: *
footprint K50-6-1626
pins: 1, 2

## K50-6-1000U-25V-1325
designator C?  (value not drawn)
Author: pcbdesigner.ru; Value: *
footprint K50-6-1325
pins: 1, 2

## K50-83-450V-33U±20%-V
designator C?  value 33u  (hidden comment: K50-83-450V-33U±20%-V)
Bi-Polar Capacitor; OriginalName: CAPBP1; ComponentField6: Published 8-Jun-2000
simulation model CAP
footprint K50-83_L33D18P7_5_HOR
footprint K50-83_L33D18P7_5_Primary
pins: 1, 2
2 alternate drawings of the same symbol

## MKP62-0.27MKF-250_275VAC
designator C?  (value not drawn)
Value: *
footprint MKP62 250_275 VAC
pins: 1, 2

## MUNDORF-MCAP-D30L56
designator C?  (value not drawn)
Author: pcbdesigner.ru; Value: *
footprint MUNDORF-MCAP-D30L56
pins: 1, 2

## MUNDORF-MCAP-D41L106
designator C?  (value not drawn)
Author: pcbdesigner.ru; Value: *
footprint MUNDORF-MCAP-D41L106
pins: 1, 2

## MUNDORF-MCAP-D44L61
designator C?  (value not drawn)
Author: pcbdesigner.ru; Value: *
footprint MUNDORF-MCAP-D44L61
pins: 1, 2

## RDER72J474MUB1H03B
designator C?  (value not drawn)
Value: *
footprint 1210_DIP
pins: 1, 2

## К10-17Б-М47-10НФ
designator C?  (value not drawn)
Value: *
footprint К10-17Б-4
pins: 1, 2

## К10-17Б-М47-910ПФ
designator С?  (value not drawn)
Value: *
footprint K10-17Б-2
pins: 1, 2

## К10-17Б-М47-1000ПФ
designator С?  (value not drawn)
Value: *
footprint K10-17Б-2
pins: 1, 2

## К10-17Б-М47-1100ПФ
designator С?  (value not drawn)
Value: *
footprint K10-17Б-2
pins: 1, 2

## К10-17Б-М47-1600ПФ
designator С?  (value not drawn)
Value: *
footprint K10-17Б-2
pins: 1, 2

## К10-17Б-М47-1800ПФ
designator С?  (value not drawn)
Value: *
footprint K10-17Б-2
pins: 1, 2

## К10-17Б-М47-2200ПФ
designator С?  (value not drawn)
Value: *
footprint K10-17Б-2
pins: 1, 2

## К10-17Б-М47-2700ПФ
designator С?  (value not drawn)
Value: *
footprint K10-17Б-2
pins: 1, 2

## К10-17Б-М47-3000ПФ
designator С?  (value not drawn)
Value: *
footprint K10-17Б-2
pins: 1, 2

## К10-17Б-М47-3300ПФ
designator C?  (value not drawn)
Value: *
footprint К10-17Б-4
pins: 1, 2

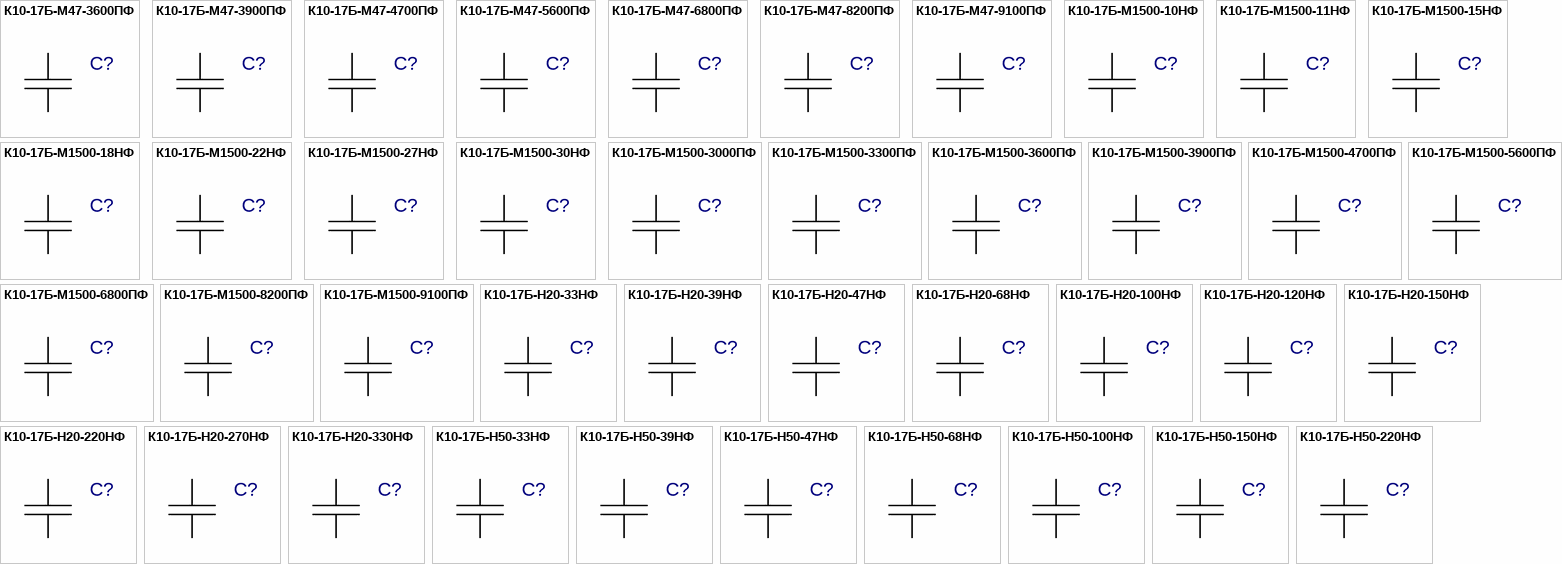
[diagram p8: symbols К10-17Б-М47-3600ПФ to К10-17Б-Н50-220НФ]

## К10-17Б-М47-3600ПФ
designator C?  (value not drawn)
Value: *
footprint К10-17Б-4
pins: 1, 2

## К10-17Б-М47-3900ПФ
designator C?  (value not drawn)
Value: *
footprint К10-17Б-4
pins: 1, 2

## К10-17Б-М47-4700ПФ
designator C?  (value not drawn)
Value: *
footprint К10-17Б-4
pins: 1, 2

## К10-17Б-М47-5600ПФ
designator C?  (value not drawn)
Value: *
footprint К10-17Б-4
pins: 1, 2

## К10-17Б-М47-6800ПФ
designator C?  (value not drawn)
Value: *
footprint К10-17Б-4
pins: 1, 2

## К10-17Б-М47-8200ПФ
designator C?  (value not drawn)
Value: *
footprint К10-17Б-4
pins: 1, 2

## К10-17Б-М47-9100ПФ
designator C?  (value not drawn)
Value: *
footprint К10-17Б-4
pins: 1, 2

## К10-17Б-М1500-10НФ
designator С?  (value not drawn)
Value: *
footprint K10-17Б-2
pins: 1, 2

## К10-17Б-М1500-11НФ
designator C?  (value not drawn)
Value: *
footprint К10-17Б-4
pins: 1, 2

## К10-17Б-М1500-15НФ
designator C?  (value not drawn)
Value: *
footprint К10-17Б-4
pins: 1, 2

## К10-17Б-М1500-18НФ
designator C?  (value not drawn)
Value: *
footprint К10-17Б-4
pins: 1, 2

## К10-17Б-М1500-22НФ
designator C?  (value not drawn)
Value: *
footprint К10-17Б-4
pins: 1, 2

## К10-17Б-М1500-27НФ
designator C?  (value not drawn)
Value: *
footprint К10-17Б-4
pins: 1, 2

## К10-17Б-М1500-30НФ
designator C?  (value not drawn)
Value: *
footprint К10-17Б-4
pins: 1, 2

## К10-17Б-М1500-3000ПФ
designator С?  (value not drawn)
Value: *
footprint K10-17Б-2
pins: 1, 2

## К10-17Б-М1500-3300ПФ
designator С?  (value not drawn)
Value: *
footprint K10-17Б-2
pins: 1, 2

## К10-17Б-М1500-3600ПФ
designator С?  (value not drawn)
Value: *
footprint K10-17Б-2
pins: 1, 2

## К10-17Б-М1500-3900ПФ
designator С?  (value not drawn)
Value: *
footprint K10-17Б-2
pins: 1, 2

## К10-17Б-М1500-4700ПФ
designator С?  (value not drawn)
Value: *
footprint K10-17Б-2
pins: 1, 2

## К10-17Б-М1500-5600ПФ
designator С?  (value not drawn)
Value: *
footprint K10-17Б-2
pins: 1, 2

## К10-17Б-М1500-6800ПФ
designator С?  (value not drawn)
Value: *
footprint K10-17Б-2
pins: 1, 2

## К10-17Б-М1500-8200ПФ
designator С?  (value not drawn)
Value: *
footprint K10-17Б-2
pins: 1, 2

## К10-17Б-М1500-9100ПФ
designator С?  (value not drawn)
Value: *
footprint K10-17Б-2
pins: 1, 2

## К10-17Б-Н20-33НФ
designator С?  (value not drawn)
Value: *
footprint K10-17Б-2
pins: 1, 2

## К10-17Б-Н20-39НФ
designator С?  (value not drawn)
Value: *
footprint K10-17Б-2
pins: 1, 2

## К10-17Б-Н20-47НФ
designator С?  (value not drawn)
Value: *
footprint K10-17Б-2
pins: 1, 2

## К10-17Б-Н20-68НФ
designator С?  (value not drawn)
Value: *
footprint K10-17Б-2
pins: 1, 2

## К10-17Б-Н20-100НФ
designator С?  (value not drawn)
Value: *
footprint K10-17Б-2
pins: 1, 2

## К10-17Б-Н20-120НФ
designator С?  (value not drawn)
Value: *
footprint K10-17Б-2
pins: 1, 2

## К10-17Б-Н20-150НФ
designator C?  (value not drawn)
Value: *
footprint К10-17Б-4
pins: 1, 2

## К10-17Б-Н20-220НФ
designator C?  (value not drawn)
Value: *
footprint К10-17Б-4
pins: 1, 2

## К10-17Б-Н20-270НФ
designator C?  (value not drawn)
Value: *
footprint К10-17Б-4
pins: 1, 2

## К10-17Б-Н20-330НФ
designator C?  (value not drawn)
Value: *
footprint К10-17Б-4
pins: 1, 2

## К10-17Б-Н50-33НФ
designator С?  (value not drawn)
Value: *
footprint K10-17Б-2
pins: 1, 2

## К10-17Б-Н50-39НФ
designator С?  (value not drawn)
Value: *
footprint K10-17Б-2
pins: 1, 2

## К10-17Б-Н50-47НФ
designator С?  (value not drawn)
Value: *
footprint K10-17Б-2
pins: 1, 2

## К10-17Б-Н50-68НФ
designator С?  (value not drawn)
Value: *
footprint K10-17Б-2
pins: 1, 2

## К10-17Б-Н50-100НФ
designator С?  (value not drawn)
Value: *
footprint K10-17Б-2
pins: 1, 2

## К10-17Б-Н50-150НФ
designator C?  (value not drawn)
Value: *
footprint К10-17Б-4
pins: 1, 2

## К10-17Б-Н50-220НФ
designator C?  (value not drawn)
Value: *
footprint К10-17Б-4
pins: 1, 2

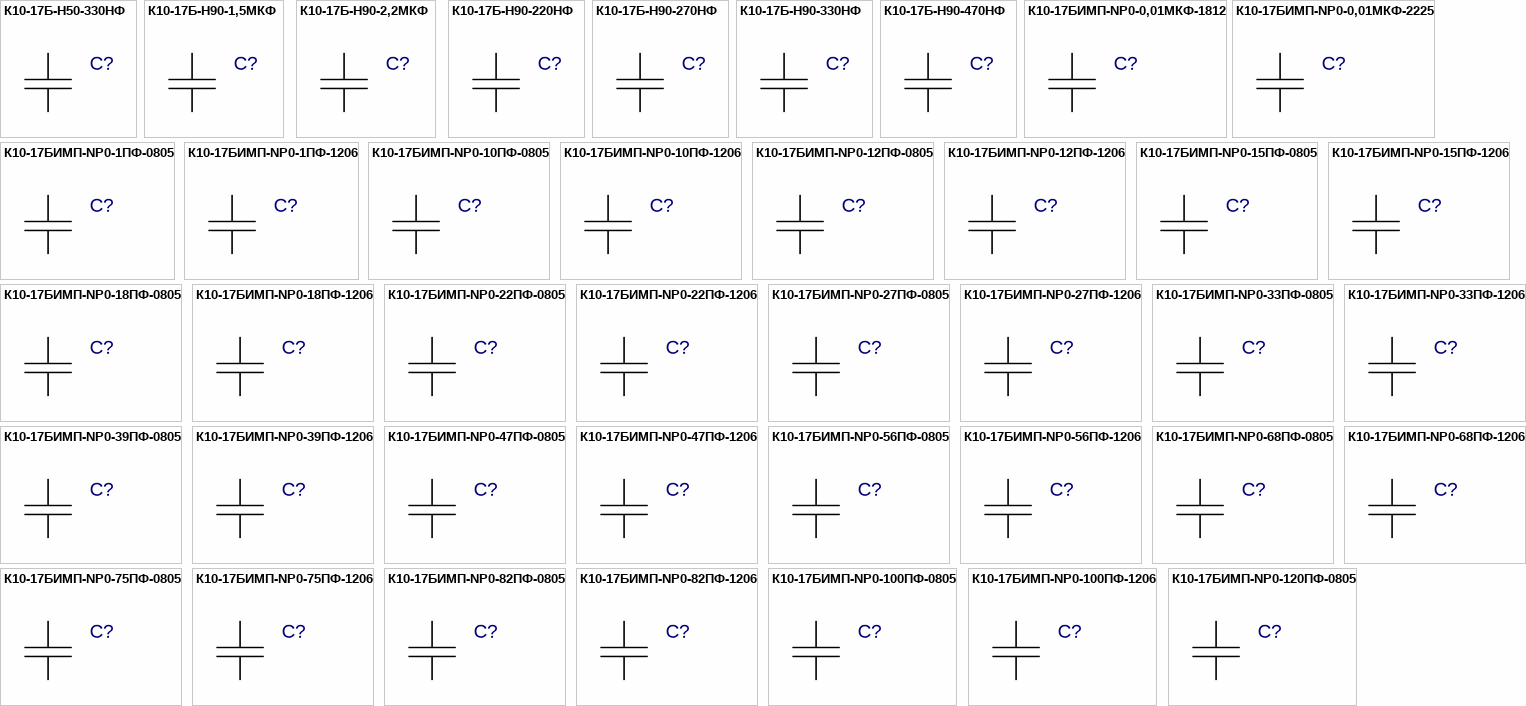
[diagram p9: symbols К10-17Б-Н50-330НФ to К10-17БИМП-NP0-120ПФ-0805]

## К10-17Б-Н50-330НФ
designator C?  (value not drawn)
Value: *
footprint К10-17Б-4
pins: 1, 2

## К10-17Б-Н90-1,5МКФ
designator C?  (value not drawn)
Value: *
footprint К10-17Б-4
pins: 1, 2

## К10-17Б-Н90-2,2МКФ
designator C?  (value not drawn)
Value: *
footprint К10-17Б-4
pins: 1, 2

## К10-17Б-Н90-220НФ
designator С?  (value not drawn)
Value: *
footprint K10-17Б-2
pins: 1, 2

## К10-17Б-Н90-270НФ
designator С?  (value not drawn)
Value: *
footprint K10-17Б-2
pins: 1, 2

## К10-17Б-Н90-330НФ
designator С?  (value not drawn)
Value: *
footprint K10-17Б-2
pins: 1, 2

## К10-17Б-Н90-470НФ
designator С?  (value not drawn)
Value: *
footprint K10-17Б-2
pins: 1, 2

## К10-17БИМП-NP0-0,01МКФ-1812
designator C?  (value not drawn)
Value: *
footprint 1812_DIP
pins: 1, 2

## К10-17БИМП-NP0-0,01МКФ-2225
designator C?  (value not drawn)
Value: *
footprint 2225_DIP
pins: 1, 2

## К10-17БИМП-NP0-1ПФ-0805
designator C?  (value not drawn)
Value: *
footprint 0805_DIP
pins: 1, 2

## К10-17БИМП-NP0-1ПФ-1206
designator C?  (value not drawn)
Value: *
footprint 1206_DIP
pins: 1, 2

## К10-17БИМП-NP0-10ПФ-0805
designator C?  (value not drawn)
Value: *
footprint 0805_DIP
pins: 1, 2

## К10-17БИМП-NP0-10ПФ-1206
designator C?  (value not drawn)
Value: *
footprint 1206_DIP
pins: 1, 2

## К10-17БИМП-NP0-12ПФ-0805
designator C?  (value not drawn)
Value: *
footprint 0805_DIP
pins: 1, 2

## К10-17БИМП-NP0-12ПФ-1206
designator C?  (value not drawn)
Value: *
footprint 1206_DIP
pins: 1, 2

## К10-17БИМП-NP0-15ПФ-0805
designator C?  (value not drawn)
Value: *
footprint 0805_DIP
pins: 1, 2

## К10-17БИМП-NP0-15ПФ-1206
designator C?  (value not drawn)
Value: *
footprint 1206_DIP
pins: 1, 2

## К10-17БИМП-NP0-18ПФ-0805
designator C?  (value not drawn)
Value: *
footprint 0805_DIP
pins: 1, 2

## К10-17БИМП-NP0-18ПФ-1206
designator C?  (value not drawn)
Value: *
footprint 1206_DIP
pins: 1, 2

## К10-17БИМП-NP0-22ПФ-0805
designator C?  (value not drawn)
Value: *
footprint 0805_DIP
pins: 1, 2

## К10-17БИМП-NP0-22ПФ-1206
designator C?  (value not drawn)
Value: *
footprint 1206_DIP
pins: 1, 2

## К10-17БИМП-NP0-27ПФ-0805
designator C?  (value not drawn)
Value: *
footprint 0805_DIP
pins: 1, 2

## К10-17БИМП-NP0-27ПФ-1206
designator C?  (value not drawn)
Value: *
footprint 1206_DIP
pins: 1, 2

## К10-17БИМП-NP0-33ПФ-0805
designator C?  (value not drawn)
Value: *
footprint 0805_DIP
pins: 1, 2

## К10-17БИМП-NP0-33ПФ-1206
designator C?  (value not drawn)
Value: *
footprint 1206_DIP
pins: 1, 2

## К10-17БИМП-NP0-39ПФ-0805
designator C?  (value not drawn)
Value: *
footprint 0805_DIP
pins: 1, 2

## К10-17БИМП-NP0-39ПФ-1206
designator C?  (value not drawn)
Value: *
footprint 1206_DIP
pins: 1, 2

## К10-17БИМП-NP0-47ПФ-0805
designator C?  (value not drawn)
Value: *
footprint 0805_DIP
pins: 1, 2

## К10-17БИМП-NP0-47ПФ-1206
designator C?  (value not drawn)
Value: *
footprint 1206_DIP
pins: 1, 2

## К10-17БИМП-NP0-56ПФ-0805
designator C?  (value not drawn)
Value: *
footprint 0805_DIP
pins: 1, 2

## К10-17БИМП-NP0-56ПФ-1206
designator C?  (value not drawn)
Value: *
footprint 1206_DIP
pins: 1, 2

## К10-17БИМП-NP0-68ПФ-0805
designator C?  (value not drawn)
Value: *
footprint 0805_DIP
pins: 1, 2

## К10-17БИМП-NP0-68ПФ-1206
designator C?  (value not drawn)
Value: *
footprint 1206_DIP
pins: 1, 2

## К10-17БИМП-NP0-75ПФ-0805
designator C?  (value not drawn)
Value: *
footprint 0805_DIP
pins: 1, 2

## К10-17БИМП-NP0-75ПФ-1206
designator C?  (value not drawn)
Value: *
footprint 1206_DIP
pins: 1, 2

## К10-17БИМП-NP0-82ПФ-0805
designator C?  (value not drawn)
Value: *
footprint 0805_DIP
pins: 1, 2

## К10-17БИМП-NP0-82ПФ-1206
designator C?  (value not drawn)
Value: *
footprint 1206_DIP
pins: 1, 2

## К10-17БИМП-NP0-100ПФ-0805
designator C?  (value not drawn)
Value: *
footprint 0805_DIP
pins: 1, 2

## К10-17БИМП-NP0-100ПФ-1206
designator C?  (value not drawn)
Value: *
footprint 1206_DIP
pins: 1, 2

## К10-17БИМП-NP0-120ПФ-0805
designator C?  (value not drawn)
Value: *
footprint 0805_DIP
pins: 1, 2

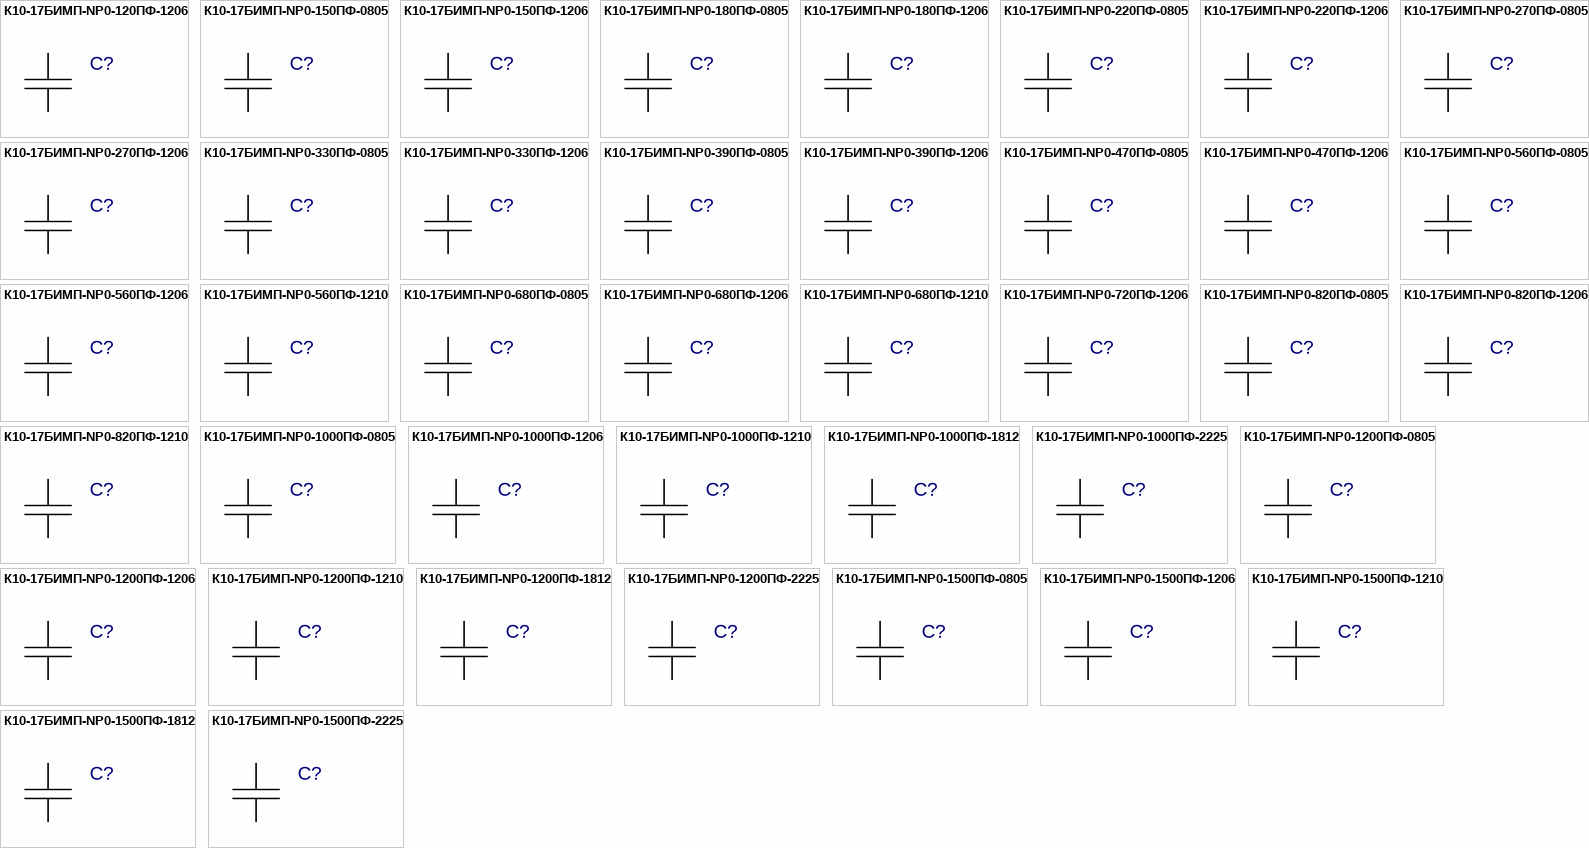
[diagram p10: symbols К10-17БИМП-NP0-120ПФ-1206 to К10-17БИМП-NP0-1500ПФ-2225]

## К10-17БИМП-NP0-120ПФ-1206
designator C?  (value not drawn)
Value: *
footprint 1206_DIP
pins: 1, 2

## К10-17БИМП-NP0-150ПФ-0805
designator C?  (value not drawn)
Value: *
footprint 0805_DIP
pins: 1, 2

## К10-17БИМП-NP0-150ПФ-1206
designator C?  (value not drawn)
Value: *
footprint 1206_DIP
pins: 1, 2

## К10-17БИМП-NP0-180ПФ-0805
designator C?  (value not drawn)
Value: *
footprint 0805_DIP
pins: 1, 2

## К10-17БИМП-NP0-180ПФ-1206
designator C?  (value not drawn)
Value: *
footprint 1206_DIP
pins: 1, 2

## К10-17БИМП-NP0-220ПФ-0805
designator C?  (value not drawn)
Value: *
footprint 0805_DIP
pins: 1, 2

## К10-17БИМП-NP0-220ПФ-1206
designator C?  (value not drawn)
Value: *
footprint 1206_DIP
pins: 1, 2

## К10-17БИМП-NP0-270ПФ-0805
designator C?  (value not drawn)
Value: *
footprint 0805_DIP
pins: 1, 2

## К10-17БИМП-NP0-270ПФ-1206
designator C?  (value not drawn)
Value: *
footprint 1206_DIP
pins: 1, 2

## К10-17БИМП-NP0-330ПФ-0805
designator C?  (value not drawn)
Value: *
footprint 0805_DIP
pins: 1, 2

## К10-17БИМП-NP0-330ПФ-1206
designator C?  (value not drawn)
Value: *
footprint 1206_DIP
pins: 1, 2

## К10-17БИМП-NP0-390ПФ-0805
designator C?  (value not drawn)
Value: *
footprint 0805_DIP
pins: 1, 2

## К10-17БИМП-NP0-390ПФ-1206
designator C?  (value not drawn)
Value: *
footprint 1206_DIP
pins: 1, 2

## К10-17БИМП-NP0-470ПФ-0805
designator C?  (value not drawn)
Value: *
footprint 0805_DIP
pins: 1, 2

## К10-17БИМП-NP0-470ПФ-1206
designator C?  (value not drawn)
Value: *
footprint 1206_DIP
pins: 1, 2

## К10-17БИМП-NP0-560ПФ-0805
designator C?  (value not drawn)
Value: *
footprint 0805_DIP
pins: 1, 2

## К10-17БИМП-NP0-560ПФ-1206
designator C?  (value not drawn)
Value: *
footprint 1206_DIP
pins: 1, 2

## К10-17БИМП-NP0-560ПФ-1210
designator C?  (value not drawn)
Value: *
footprint 1210_DIP
pins: 1, 2

## К10-17БИМП-NP0-680ПФ-0805
designator C?  (value not drawn)
Value: *
footprint 0805_DIP
pins: 1, 2

## К10-17БИМП-NP0-680ПФ-1206
designator C?  (value not drawn)
Value: *
footprint 1206_DIP
pins: 1, 2

## К10-17БИМП-NP0-680ПФ-1210
designator C?  (value not drawn)
Value: *
footprint 1210_DIP
pins: 1, 2

## К10-17БИМП-NP0-720ПФ-1206
designator C?  (value not drawn)
Value: *
footprint 1206_DIP
pins: 1, 2

## К10-17БИМП-NP0-820ПФ-0805
designator C?  (value not drawn)
Value: *
footprint 0805_DIP
pins: 1, 2

## К10-17БИМП-NP0-820ПФ-1206
designator C?  (value not drawn)
Value: *
footprint 1206_DIP
pins: 1, 2

## К10-17БИМП-NP0-820ПФ-1210
designator C?  (value not drawn)
Value: *
footprint 1210_DIP
pins: 1, 2

## К10-17БИМП-NP0-1000ПФ-0805
designator C?  (value not drawn)
Value: *
footprint 0805_DIP
pins: 1, 2

## К10-17БИМП-NP0-1000ПФ-1206
designator C?  (value not drawn)
Value: *
footprint 1206_DIP
pins: 1, 2

## К10-17БИМП-NP0-1000ПФ-1210
designator C?  (value not drawn)
Value: *
footprint 1210_DIP
pins: 1, 2

## К10-17БИМП-NP0-1000ПФ-1812
designator C?  (value not drawn)
Value: *
footprint 1812_DIP
pins: 1, 2

## К10-17БИМП-NP0-1000ПФ-2225
designator C?  (value not drawn)
Value: *
footprint 2225_DIP
pins: 1, 2

## К10-17БИМП-NP0-1200ПФ-0805
designator C?  (value not drawn)
Value: *
footprint 0805_DIP
pins: 1, 2

## К10-17БИМП-NP0-1200ПФ-1206
designator C?  (value not drawn)
Value: *
footprint 1206_DIP
pins: 1, 2

## К10-17БИМП-NP0-1200ПФ-1210
designator C?  (value not drawn)
Value: *
footprint 1210_DIP
pins: 1, 2

## К10-17БИМП-NP0-1200ПФ-1812
designator C?  (value not drawn)
Value: *
footprint 1812_DIP
pins: 1, 2

## К10-17БИМП-NP0-1200ПФ-2225
designator C?  (value not drawn)
Value: *
footprint 2225_DIP
pins: 1, 2

## К10-17БИМП-NP0-1500ПФ-0805
designator C?  (value not drawn)
Value: *
footprint 0805_DIP
pins: 1, 2

## К10-17БИМП-NP0-1500ПФ-1206
designator C?  (value not drawn)
Value: *
footprint 1206_DIP
pins: 1, 2

## К10-17БИМП-NP0-1500ПФ-1210
designator C?  (value not drawn)
Value: *
footprint 1210_DIP
pins: 1, 2

## К10-17БИМП-NP0-1500ПФ-1812
designator C?  (value not drawn)
Value: *
footprint 1812_DIP
pins: 1, 2

## К10-17БИМП-NP0-1500ПФ-2225
designator C?  (value not drawn)
Value: *
footprint 2225_DIP
pins: 1, 2

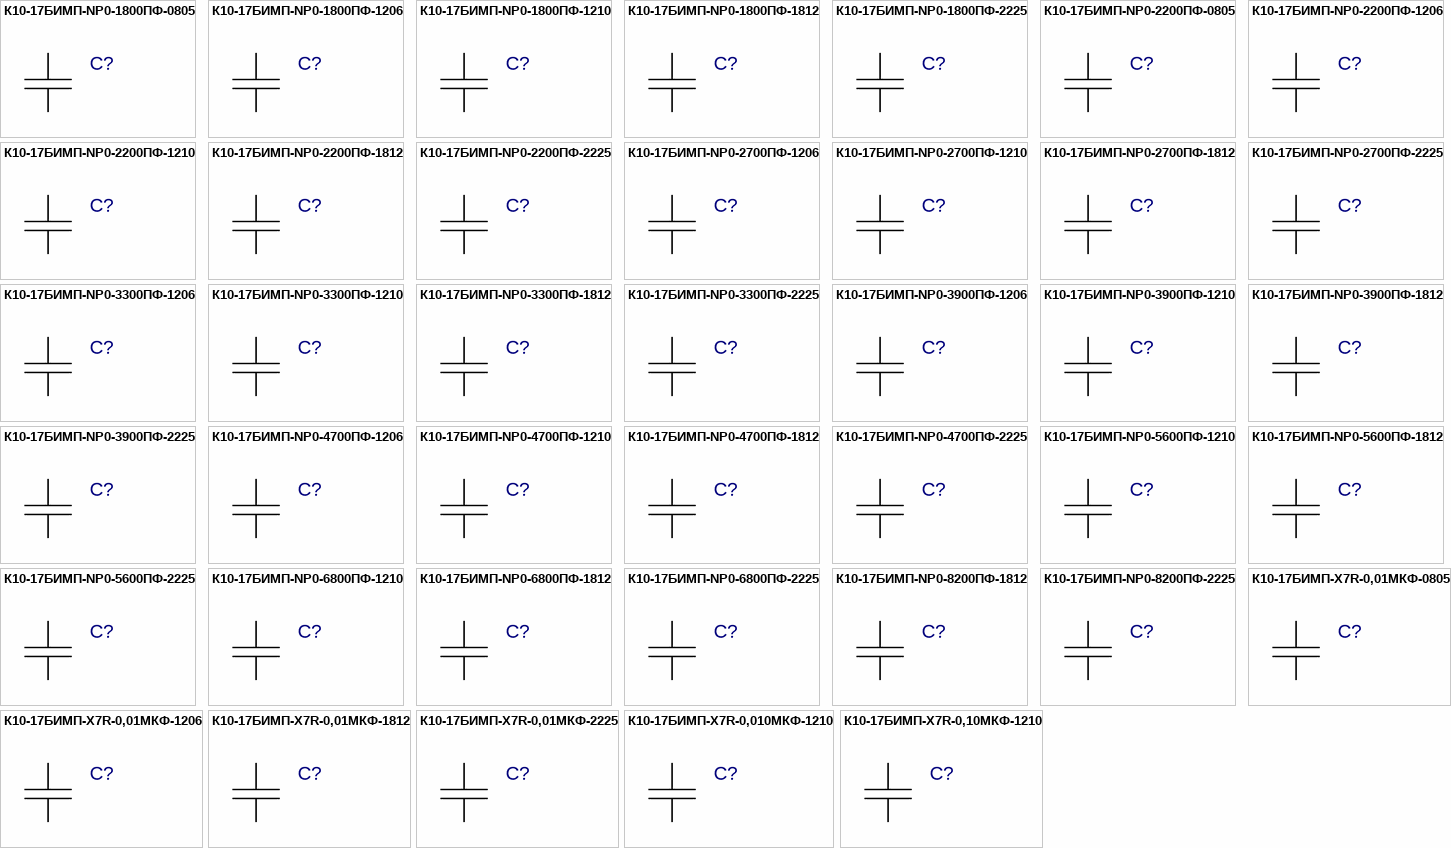
[diagram p11: symbols К10-17БИМП-NP0-1800ПФ-0805 to К10-17БИМП-X7R-0,10МКФ-1210]

## К10-17БИМП-NP0-1800ПФ-0805
designator C?  (value not drawn)
Value: *
footprint 0805_DIP
pins: 1, 2

## К10-17БИМП-NP0-1800ПФ-1206
designator C?  (value not drawn)
Value: *
footprint 1206_DIP
pins: 1, 2

## К10-17БИМП-NP0-1800ПФ-1210
designator C?  (value not drawn)
Value: *
footprint 1210_DIP
pins: 1, 2

## К10-17БИМП-NP0-1800ПФ-1812
designator C?  (value not drawn)
Value: *
footprint 1812_DIP
pins: 1, 2

## К10-17БИМП-NP0-1800ПФ-2225
designator C?  (value not drawn)
Value: *
footprint 2225_DIP
pins: 1, 2

## К10-17БИМП-NP0-2200ПФ-0805
designator C?  (value not drawn)
Value: *
footprint 0805_DIP
pins: 1, 2

## К10-17БИМП-NP0-2200ПФ-1206
designator C?  (value not drawn)
Value: *
footprint 1206_DIP
pins: 1, 2

## К10-17БИМП-NP0-2200ПФ-1210
designator C?  (value not drawn)
Value: *
footprint 1210_DIP
pins: 1, 2

## К10-17БИМП-NP0-2200ПФ-1812
designator C?  (value not drawn)
Value: *
footprint 1812_DIP
pins: 1, 2

## К10-17БИМП-NP0-2200ПФ-2225
designator C?  (value not drawn)
Value: *
footprint 2225_DIP
pins: 1, 2

## К10-17БИМП-NP0-2700ПФ-1206
designator C?  (value not drawn)
Value: *
footprint 1206_DIP
pins: 1, 2

## К10-17БИМП-NP0-2700ПФ-1210
designator C?  (value not drawn)
Value: *
footprint 1210_DIP
pins: 1, 2

## К10-17БИМП-NP0-2700ПФ-1812
designator C?  (value not drawn)
Value: *
footprint 1812_DIP
pins: 1, 2

## К10-17БИМП-NP0-2700ПФ-2225
designator C?  (value not drawn)
Value: *
footprint 2225_DIP
pins: 1, 2

## К10-17БИМП-NP0-3300ПФ-1206
designator C?  (value not drawn)
Value: *
footprint 1206_DIP
pins: 1, 2

## К10-17БИМП-NP0-3300ПФ-1210
designator C?  (value not drawn)
Value: *
footprint 1210_DIP
pins: 1, 2

## К10-17БИМП-NP0-3300ПФ-1812
designator C?  (value not drawn)
Value: *
footprint 1812_DIP
pins: 1, 2

## К10-17БИМП-NP0-3300ПФ-2225
designator C?  (value not drawn)
Value: *
footprint 2225_DIP
pins: 1, 2

## К10-17БИМП-NP0-3900ПФ-1206
designator C?  (value not drawn)
Value: *
footprint 1206_DIP
pins: 1, 2

## К10-17БИМП-NP0-3900ПФ-1210
designator C?  (value not drawn)
Value: *
footprint 1210_DIP
pins: 1, 2

## К10-17БИМП-NP0-3900ПФ-1812
designator C?  (value not drawn)
Value: *
footprint 1812_DIP
pins: 1, 2

## К10-17БИМП-NP0-3900ПФ-2225
designator C?  (value not drawn)
Value: *
footprint 2225_DIP
pins: 1, 2

## К10-17БИМП-NP0-4700ПФ-1206
designator C?  (value not drawn)
Value: *
footprint 1206_DIP
pins: 1, 2

## К10-17БИМП-NP0-4700ПФ-1210
designator C?  (value not drawn)
Value: *
footprint 1210_DIP
pins: 1, 2

## К10-17БИМП-NP0-4700ПФ-1812
designator C?  (value not drawn)
Value: *
footprint 1812_DIP
pins: 1, 2

## К10-17БИМП-NP0-4700ПФ-2225
designator C?  (value not drawn)
Value: *
footprint 2225_DIP
pins: 1, 2

## К10-17БИМП-NP0-5600ПФ-1210
designator C?  (value not drawn)
Value: *
footprint 1210_DIP
pins: 1, 2

## К10-17БИМП-NP0-5600ПФ-1812
designator C?  (value not drawn)
Value: *
footprint 1812_DIP
pins: 1, 2

## К10-17БИМП-NP0-5600ПФ-2225
designator C?  (value not drawn)
Value: *
footprint 2225_DIP
pins: 1, 2

## К10-17БИМП-NP0-6800ПФ-1210
designator C?  (value not drawn)
Value: *
footprint 1210_DIP
pins: 1, 2